# Altium schematic symbol library Mark_Library.SchLib: 467 symbols (part 2 of 4)
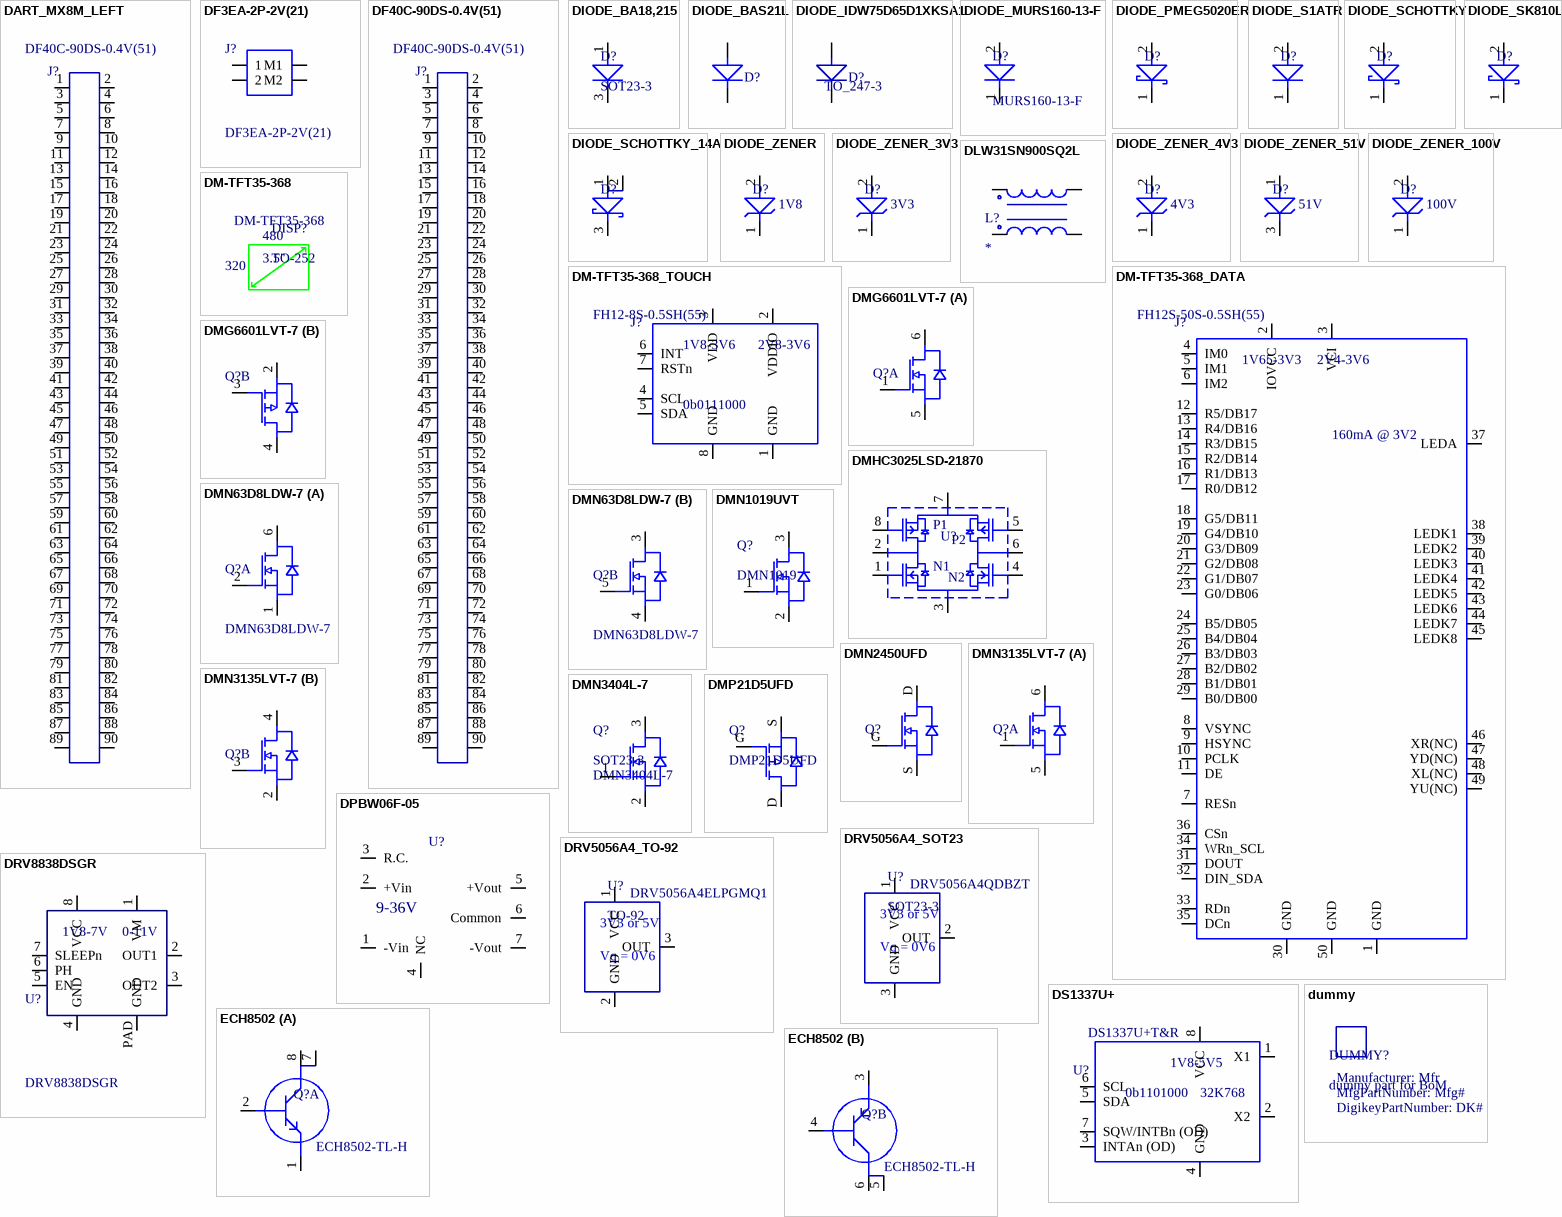
[diagram p20: symbols DART_MX8M_LEFT to ECH8502]

## DIODE_ZENER_3V3
designator D?, comment ZenerVoltage: 3V3  (hidden comment: Zener Diode)
Zener Diode 500mW ±5% Surface Mount SOD-123; Manufacturer: ON Semiconductor; MfgPartNumber: MMSZ4684T1G; DigikeyPartNumber: MMSZ4684T1GOSTR-ND
footprint SOD-123 (for Zener diodes)
pins: 1, 2

## DIODE_ZENER_4V3
designator D?, comment ZenerVoltage: 4V3  (hidden comment: Zener Diode)
Zener Diode 4.3V 500mW ±5% Surface Mount SOD-123; Manufacturer: ON Semiconductor; MfgPartNumber: MMSZ4V3T1G; DigikeyPartNumber: MMSZ4V3T1GOSCT-ND
footprint SOD-123 (for Zener diodes)
pins: 1, 2

## DIODE_ZENER_51V
designator D?, comment ZenerVoltage: 51V  (hidden comment: Zener Diode)
Zener Diode 51V 250mW ±1% Surface Mount TO-236AB; Manufacturer: Nexperia; MfgPartNumber: BZX84-A51,215; DigikeyPartNumber: 1727-5608-1-ND
footprint SOT23-3
pins: 1 A, 3 C

## DIODE_ZENER_100V
designator D?, comment ZenerVoltage: 100V  (hidden comment: Zener Diode)
Zener Diode 100V 310mW ±5% Surface Mount SOD-323F; Manufacturer: Nexperia; MfgPartNumber: BZX100A,115; DigikeyPartNumber: 1727-4984-1-ND
footprint SOD-323 (For CSU10S30,H3F schottky diode)
pins: 1 C, 2 A

## DLW31SN900SQ2L
designator L?
2 Line Common Mode Choke Surface Mount 90 Ohms @ 100MHz 370mA DCR 300mOhm; MfgPartNumber: DLW31SN900SQ2L; Manufacturer: Murata; DigikeyPartNumber: 490-1067-1-ND
footprint DUAL_CHOKE_1.6_3.2MM (for DLW31SN900SQ2L)
pins: 1, 2, 3, 4

## DM-TFT35-368
designator DISP?, comment TO-252  MfgPartNumber: DM-TFT35-368  (mechanical)
3.5" 320 x 480 touchscreen; Manufacturer: DisplayModule; DigikeyPartNumber: N/A  https://www.displaymodule.com/products/3-5-ips-320x480-display-panel-with-capacitive-touch-spi-mcu-rgb
text: 480; 3.5"; 320

## DM-TFT35-368_DATA
designator J?  MfgPartNumber: FH12S-50S-0.5SH(55)
3.5" 320 x 480 touchscreen; Manufacturer: Hirose; DigikeyPartNumber: HFA150CT-ND
footprint FH12S-50S-0.5SH(55) (50-pin FFC conn 0.5mm, bottom contacts)
pins: 1 GND, 2 IOVCC, 3 VCI, 4 IM0, 5 IM1, 6 IM2, 7 RESn, 8 VSYNC, 9 HSYNC, 10 PCLK, 11 DE, 12 R5/DB17, 13 R4/DB16, 14 R3/DB15, 15 R2/DB14, 16 R1/DB13, 17 R0/DB12, 18 G5/DB11, 19 G4/DB10, 20 G3/DB09, 21 G2/DB08, 22 G1/DB07, 23 G0/DB06, 24 B5/DB05, 25 B4/DB04, 26 B3/DB03, 27 B2/DB02, 28 B1/DB01, 29 B0/DB00, 30 GND, 31 DOUT, 32 DIN_SDA, 33 RDn, 34 WRn_SCL, 35 DCn, 36 CSn, 37 LEDA, 38 LEDK1, 39 LEDK2, 40 LEDK3, 41 LEDK4, 42 LEDK5, 43 LEDK6, 44 LEDK7, 45 LEDK8, 46 XR(NC), 47 YD(NC), 48 XL(NC), 49 YU(NC), 50 GND
text: 1V65-3V3; 2V4-3V6; 160mA @ 3V2

## DM-TFT35-368_TOUCH
designator J?  MfgPartNumber: FH12-8S-0.5SH(55)
3.5" 320 x 480 touchscreen; Manufacturer: Hirose; DigikeyPartNumber: H124618CT-ND
footprint FH12-8S-0.5SH(55) (8-pin FFC conn 0.5mm, bottom contacts)
pins: 1 GND, 2 VDDIO, 3 VDD, 4 SCL, 5 SDA, 6 INT, 7 RSTn, 8 GND
text: 1V8-3V6; 2V8-3V6; 0b0111000

## DMG6601LVT-7
designator Q?, comment dual FET SOT23-6  (value not drawn)
MOSFET N/P-CH 30V 26TSOT; MfgPartNumber: DMG6601LVT-7; Manufacturer: Diodes Incorporated; DigikeyPartNumber: DMG6601LVT-7DICT-ND
footprint SOT23-6
part A pins: 1 G, 5 S, 6 D
part B pins: 2 S, 3 G, 4 D

## DMHC3025LSD-21870
designator U?  (value not drawn)
H-Bridge / Rectifier; Manufacturer: Diodes Incorporated; MfgPartNumber: DMHC3025LSD
footprint SOIC-8
pins: 1 N1G, 2 N1D/P1D, 3 N1S/N2S, 4 N2G, 5 P2G, 6 N2D/P2D, 7 P1S/P2S, 8 P1G
text: P1; P2; N1; N2

## DMN63D8LDW-7
designator Q?  MfgPartNumber: DMN63D8LDW-7
Mosfet Array 2 N-Channel (Dual) 30V 220mA 300mW Surface Mount SOT-363; Manufacturer: Diodes Incorporated; DigikeyPartNumber: DMN63D8LDW-7CT-ND
footprint SOT363-6 (6 pin 2.2 x 2.2 mm)
part A pins: 1 S1, 2 G1, 6 D1
part B pins: 3 D2, 4 S2, 5 G2

## DMN1019UVT
designator Q?, comment DMN1019
MOSFET N-CH 12V 9.3A SC59; Manufacturer: Diodes Incorporated; MfgPartNumber: DMN1019USN-7; Ron: 13m-ohm at 1.8V; DigikeyPartNumber: DMN1019USN-7DICT-ND; Vds max: 12V
footprint SC59-3 (alternative to SOT23-3)
pins: 1, 2, 3

## DMN2450UFD
designator Q?  (value not drawn)
N-Channel 20V 900mA (Ta) 400mW (Ta) Surface Mount X1-DFN1212-3; MfgPartNumber: DMN2450UFD-7; Manufacturer: Diodes Incorporated; RDS_on: 600mOhm @ 4.5V; DigikeyPartNumber: DMN2450UFD-7DICT-ND
footprint DFN1212-3 (1.25 x 1.25mm SMD for PMOS DMP21D5UFD-7)
pins: D, G, S

## DMN3135LVT-7
designator Q?
Mosfet Array 2 N-Channel (Dual) 30V 3.5A 840mW Surface Mount TSOT-26; Manufacturer: Diodes Incorporated; DigikeyPartNumber: DMN3135LVT-7DICT-ND - Cut Tape (CT)
footprint SOT23-6
part A pins: 1 G1, 5 S1, 6 D1
part B pins: 2 S2, 3 G2, 4 D2

## DMN3404L-7
designator Q?  MfgPartNumber: DMN3404L-7
MOSFET N-CH 30V 5.8A SOT-23; Manufacturer: Diodes Incorporated; Ron: 82m-ohm at 3V; DigikeyPartNumber: DMN3404LDICT-ND; Vds max: 30V
footprint SOT23-3
pins: 1, 2, 3

## DMP21D5UFD
designator Q?
PMOS in 1.25 x 1.25mm SMD; MfgPartNumber: DMP21D5UFD-7; Manufacturer: Diodes Incorporated; DigikeyPartNumber: DMP21D5UFD-7DICT-ND
footprint DFN1212-3 (1.25 x 1.25mm SMD for PMOS DMP21D5UFD-7)
pins: D, G, S

## DPBW06F-05
designator U?  (value not drawn)
Isolated Module DC DC Converter 2 Output 5V -5V 600mA, 600mA 9V - 36V Input; MfgPartNumber: DPBW06F-05; Manufacturer: Mean Well USA; DigikeyPartNumber: 1866-1401-ND
pins: 1 -Vin, 2 +Vin, 3 R.C., 4 NC, 5 +Vout, 6 Common, 7 -Vout
text: 9-36V

## DRV5056A4_SOT23
designator U?, comment SOT23-3  MfgPartNumber: DRV5056A4QDBZT
Hall Effect Sensor 25mV/mT output; Manufacturer: Texas Instruments; DigikeyPartNumber: 296-49481-6-ND
footprint SOT23-3
pins: 1 VCC, 2 OUT, 3 GND
text: 3V3 or 5V; Vq = 0V6

## DRV5056A4_TO-92
designator U?, comment TO-92  MfgPartNumber: DRV5056A4ELPGMQ1
Hall Effect Sensor 25mV/mT output; Manufacturer: Texas Instruments; DigikeyPartNumber: 296-DRV5056A4ELPGMQ1CT-ND
footprint TO-92 (transistor through-hole)
pins: 1 VCC, 2 GND, 3 OUT
text: 3V3 or 5V; Vq = 0V6

## DRV8838DSGR
designator U?  MfgPartNumber: DRV8838DSGR
IC BRIDGE DRIVER PAR 8WSON; Manufacturer: Texas Instruments; DigikeyPartNumber: 296-40081-1-ND
footprint WSON-8_PAD (2x2x0.8mm 8pins SMD + center pad)
pins: 1 VM, 2 OUT1, 3 OUT2, 4 GND, 5 EN, 6 PH, 7 SLEEPn, 8 VCC, PAD GND
text: 1V8-7V; 0-11V

## DS1337U+
designator U?  MfgPartNumber: DS1337U+T&R  (hidden comment: *)
IC RTC CLK/CALENDAR I2C 8-USOP; Manufacturer: Maxim; DigikeyPartNumber: DS1337U+T&RCT-ND
footprint MSOP-8 (3x3mm + leads, 8 pins SMD)
pins: 1 X1, 2 X2, 3 INTAn (OD), 4 GND, 5 SDA, 6 SCL, 7 SQW/INTBn (OD), 8 VCC
text: 1V8-5V5; 0b1101000; 32K768

## dummy
designator DUMMY?, comment dummy part for BoM  DigikeyPartNumber: DK#  Manufacturer: Mfr  MfgPartNumber: Mfg#

## ECH8502
designator Q?  MfgPartNumber: ECH8502-TL-H
Bipolar (BJT) Transistor Array NPN, PNP 100V, 50V 5A 290MHz 1.6W Surface Mount 8-ECH; Manufacturer: ON Semiconductor; DigikeyPartNumber: ECH8502-TL-HOSCT-ND
footprint ECH-8 (for ECH8502 NPN/PNP)
part A pins: 1 E, 2 B, 7 C, 8 C
part B pins: 3 E, 4 B, 5 C, 6 C

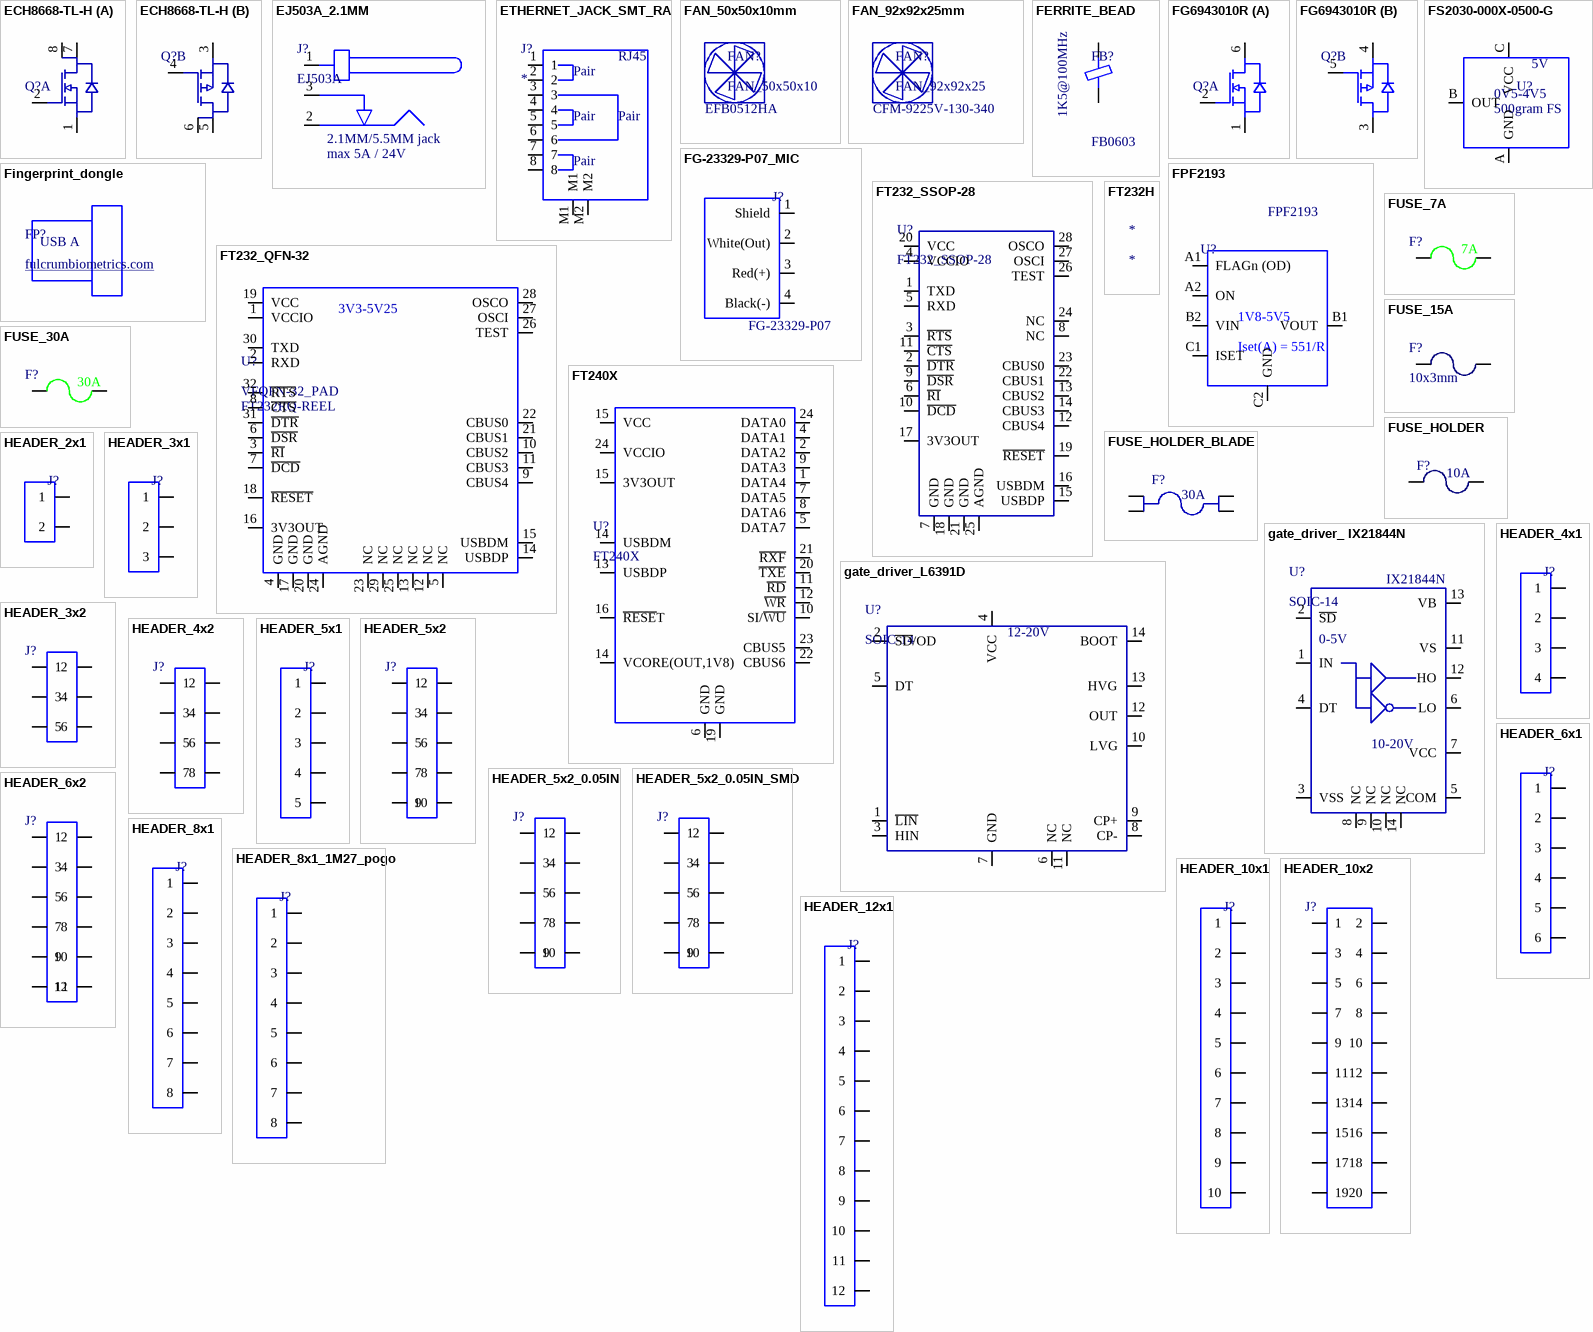
[diagram p8: symbols ECH8668-TL-H to HEADER_12x1]

## ECH8668-TL-H
designator Q?, comment ECH-8  (value not drawn)
MOSFET N/P-CH 20V 7.5A/5A ECH8; MfgPartNumber: ECH8668-TL-H; Manufacturer: ON Semiconductor; DigikeyPartNumber: ECH8668-TL-HOSCT-ND
footprint ECH-8 (for ECH8502 NPN/PNP)
part A pins: 1 S, 2 G, 7 D, 8 D
part B pins: 3 S, 4 G, 5 D, 6 D

## EJ503A_2.1MM
designator J?, comment EJ503A
CONN PWR JACK 2.1X5.5MM SOLDER; Manufacturer: MPD; MfgPartNumber: EJ503A; DigikeyPartNumber: EJ503A-ND
footprint PJ-002AH (For use with EJ503-A DC power jack)
pins: 1, 2, 3
text: 2.1MM/5.5MM jack; max 5A / 24V

## ETHERNET_JACK_SMT_RA
designator J?
Jack Modular Connector 8p8c (RJ45, Ethernet) 90° Angle (Right) Unshielded; Manufacturer: Amphenol; MfgPartNumber: RJLSE4208101T; DigikeyPartNumber: RJLSE4208101TCT-ND
footprint RJLSE4208101T
pins: 1, 2, 3, 4, 5, 6, 7, 8, M1, M2
text: RJ45; Pair

## FAN_50x50x10mm
designator FAN?  MfgPartNumber: EFB0512HA
Manufacturer: Delta Electronics; DigikeyPartNumber: 603-1023-ND
footprint FAN_50x50x10 (12V fan 50x50x10mm)

## FAN_92x92x25mm
designator FAN?  MfgPartNumber: CFM-9225V-130-340
Manufacturer: CUI Inc.; DigikeyPartNumber: 102-4386-ND
footprint FAN_92x92x25 (12V fan 92x92x25mm)

## FERRITE_BEAD
designator FB?, comment value 1K5@100MHz  (hidden comment: Ferrite Bead)
Ferrite Bead for high frequency power line filtering; Manufacturer: Lookup; MfgPartNumber: Lookup; DigikeyPartNumber: Lookup
footprint FB0402 (Ferrite Bead 1.0 x 0.5mm (0402), For TDK MMZ1005 series)
footprint FB0603 (Ferrite Bead 1.6 x 0.8mm (0603), For TDK MMZ1608 series)
pins: 1, 2

## FG6943010R
designator Q?, comment dual fet SSMini6  (value not drawn)
MOSFET N/P-CH 30V 0.1A SSMINI6; MfgPartNumber: FG6943010R; Manufacturer: Panasonic Electronic Components; DigikeyPartNumber: FG6943010RCT-ND
footprint SSMini6-F3-B (1.6 x 1.2mm SMD for NMOS + PMOS array)
part A pins: 1 S, 2 G, 6 D
part B pins: 3 D, 4 S, 5 G

## FG-23329-P07_MIC
designator J?, comment MfgPartNumber: FG-23329-P07  (hidden comment: Mic header)
MIC COND ANALOG OMNI -53DB; Manufacturer: Knowles; DigikeyPartNumber: 423-1159-ND
footprint FG-23329-P07 (Knowles Mic 4 wires)
pins: 1 Shield, 2 White(Out), 3 Red(+), 4 Black(-)

## Fingerprint_dongle
designator FP?, comment fulcrumbiometrics.com  (no BOM)
footprint FP_dongle_dummy (3d model for fingerprint license dongle)
text: USB A

## FPF2193
designator U?, comment MfgPartNumber: FPF2193  (hidden comment: TPS2113A)
IC OR CTRLR SRC SELECT 8TSSOP; Manufacturer: ON Semiconductor; DigikeyPartNumber: FPF2193CT-ND
footprint WLCSP_6_1x1mm5 (1 x 1.5 x 0.6mm)
pins: A1 FLAGn (OD), A2 ON, B1 VOUT, B2 VIN, C1 ISET, C2 GND
text: 1V8-5V5; Iset(A) = 551/R

## FS2030-000X-0500-G
designator U?  (value not drawn)
SENSOR FORCE LOAD CELL; MfgPartNumber: FS2030-000X-0500-G; Manufacturer: TE Connectivity; DigikeyPartNumber: FS2030-000X-0500-G
footprint LOAD_CELL_VERT (for  FS2030-000X-0500-G)
pins: A GND, B OUT, C VCC
text: 5V; 0V5-4V5; 500gram FS

## FT232_QFN-32
designator U?  MfgPartNumber: FT232RQ-REEL
USB Bridge, USB to UART USB 2.0 UART Interface 32-QFN (5x5); Manufacturer: FTDI; DigikeyPartNumber: 768-1008-1-ND
footprint VFQFN-32_PAD (5x5x0.9mm SMD)
pins: 1 VCCIO, 2 RXD, 3 ~{RI}, 4 GND, 5 NC, 6 ~{DSR}, 7 ~{DCD}, 8 ~{CTS}, 9 CBUS4, 10 CBUS2, 11 CBUS3, 12 NC, 13 NC, 14 USBDP, 15 USBDM, 16 3V3OUT, 17 GND, 18 ~{RESET}, 19 VCC, 20 GND, 21 CBUS1, 22 CBUS0, 23 NC, 24 AGND, 25 NC, 26 TEST, 27 OSCI, 28 OSCO, 29 NC, 30 TXD, 31 ~{DTR}, 32 ~{RTS}
text: 3V3-5V25

## FT232_SSOP-28
designator U?
USB Bridge, USB to UART USB 2.0 UART Interface 28-SSOP; MfgPartNumber: FT232RL-REEL; Manufacturer: FTDI; DigikeyPartNumber: 768-1007-1-ND
footprint SSOP-28 (8x10x1.75mm SMD)
pins: 1 TXD, 2 ~{DTR}, 3 ~{RTS}, 4 VCCIO, 5 RXD, 6 ~{RI}, 7 GND, 8 NC, 9 ~{DSR}, 10 ~{DCD}, 11 ~{CTS}, 12 CBUS4, 13 CBUS2, 14 CBUS3, 15 USBDP, 16 USBDM, 17 3V3OUT, 18 GND, 19 ~{RESET}, 20 VCC, 21 GND, 22 CBUS1, 23 CBUS0, 24 NC, 25 AGND, 26 TEST, 27 OSCI, 28 OSCO

## FT232H
designator *

## FT240X
designator U?
IC USB FS PARALLEL FIFO 24SSOP; MfgPartNumber: FT240XS-R; Manufacturer: FTDI; DigikeyPartNumber: 768-1127-1-ND
footprint SSOP-24 (SMD 24-pin SSOP 0.34 x 0.236 inch)
pins: 1 DATA4, 2 DATA2, 4 DATA1, 5 DATA7, 6 GND, 7 DATA5, 8 DATA6, 9 DATA3, 10 SI/~{WU}, 11 ~{RD}, 12 ~{WR}, 13 USBDP, 14 USBDM, 14 VCORE(OUT,1V8), 15 3V3OUT, 15 VCC, 16 ~{RESE}T, 19 GND, 20 ~{TXE}, 21 ~{RXF}, 22 CBUS6, 23 CBUS5, 24 DATA0, 24 VCCIO

## FUSE_7A
designator F?  CurrentRating: 7A  (hidden comment: *)  (mechanical)
FUSE GLASS 7A 125VAC 5X20MM; MfgPartNumber: 5MF 7-R; Manufacturer: Bel Fuse Inc.; DigikeyPartNumber: 507-1271-ND
pins: 1, 2

## FUSE_15A
designator F?, comment 10x3mm
FUSE BOARD MNT 15A 250VAC 72VDC; Manufacturer: Bel Fuse Inc.; MfgPartNumber: 0678L9150-02; DigikeyPartNumber: 507-2062-1-ND; CurrentRating: 15A
footprint FUSE_SMT_3x10 (10x3x3mm fuse)
pins: 1, 2

## FUSE_30A
designator F?, comment CurrentRating: 30A  (hidden comment: Blade fuse)  (mechanical)
FUSE AUTO 30A 32VDC BLADE MINI; MfgPartNumber: BK/ATM-30; Manufacturer: Eaton - Bussmann Electrical Division; DigikeyPartNumber: 283-2332-ND
pins: 1, 2

## FUSE_HOLDER
designator F?, comment CurrentRating: 10A  (hidden comment: Block fuse holder, 5x20mm)
MfgPartNumber: 0031.8221; Manufacturer: Schurter; DigikeyPartNumber: 486-1260-ND
footprint FUSE_BLOCK_10A (For Schurter fuse block, 10A)
pins: 1, 2

## FUSE_HOLDER_BLADE
designator F?, comment CurrentRating: 30A  (hidden comment: FUSE HOLDER BLADE 500V 30A PCB)
MfgPartNumber: 3568; Manufacturer: Keystone Electronics; DigikeyPartNumber: 36-3568-ND
footprint FUSE_BLOCK_30A (For Keystone fuse block 3568, 30A)
pins: 1, 2, 3, 4

## gate_driver_ IX21844N
designator U?  MfgPartNumber: IX21844N
IC GATE DVR HALF 600V 14SOIC; Manufacturer: IXYS; DigikeyPartNumber: CLA409-ND
footprint SOIC-14
pins: 1 IN, 2 ~{SD}, 3 VSS, 4 DT, 5 COM, 6 LO, 7 VCC, 8 NC, 9 NC, 10 NC, 11 VS, 12 HO, 13 VB, 14 NC
text: 0-5V; 10-20V

## gate_driver_L6391D
designator U?
IC DRIVER HV HI/LOW SIDE 14SO; Manufacturer: STMicroelectronics; MfgPartNumber: L6391D; DigikeyPartNumber: 497-15782-ND
footprint SOIC-14
pins: 1 ~{LIN}, 2 ~{SD}/OD, 3 HIN, 4 VCC, 5 DT, 6 NC, 7 GND, 8 CP-, 9 CP+, 10 LVG, 11 NC, 12 OUT, 13 HVG, 14 BOOT
text: 12-20V

## HEADER_2x1
designator J?, comment 0.1in 2x1  (value not drawn)
0.1in header 2x1; Gender: Male
footprint HEADER_2x1 (2x1 0IN1 2MM54 spacing)
pins: 1, 2

## HEADER_3x1
designator J?, comment 0.1in 3x1  (value not drawn)
0.1in header 3x1; Gender: Male
footprint HEADER_3x1 (tenth-inch header as a testpoint)
pins: 1, 2, 3

## HEADER_3x2
designator J?, comment 0.1in 4x2  (value not drawn)
0.1in header 4x2; Gender: Male
footprint HEADER_3x2 (3x2 0IN1 2MM54 spacing)
pins: 1, 2, 3, 4, 5, 6

## HEADER_4x1
designator J?, comment 0.1in 4x1  (value not drawn)
0.1in header 4x1; Gender: Male
footprint HEADER_4x1 (4x1 0IN1 2MM54 spacing)
pins: 1, 2, 3, 4

## HEADER_4x2
designator J?, comment 0.1in 4x2  (value not drawn)
0.1in header 4x2; Gender: Male
footprint HEADER_4x2 (4x2 0IN1 2MM54 spacing)
pins: 1, 2, 3, 4, 5, 6, 7, 8

## HEADER_5x1
designator J?, comment 0.1in 5x1  (value not drawn)
0.1in header 5x1; Gender: Male
footprint HEADER_5x1 (5x1 0IN1 2MM54 spacing)
pins: 1, 2, 3, 4, 5

## HEADER_5x2
designator J?, comment 0.1in 5x2  (value not drawn)
0.1in header 5x2; Gender: Male
footprint HEADER_5x2 (5x2 0IN1 2MM54 spacing)
pins: 1, 2, 3, 4, 5, 6, 7, 8, 9, 10

## HEADER_5x2_0.05IN
designator J?, comment 0.05in 5x2  (value not drawn)
0.05in header 5x2; MfgPartNumber: 1175-1627-ND; Manufacturer: CNC Tech; Gender: Male; DigikeyPartNumber: 1175-1627-ND
footprint HEADER_2x5_0.05IN (0.05 (1.27mm) 2x5 header for programming nRF52832)
pins: 1, 2, 3, 4, 5, 6, 7, 8, 9, 10

## HEADER_5x2_0.05IN_SMD
designator J?, comment 0.05in 5x2  (value not drawn)
0.05in header 5x2, SMD, male; MfgPartNumber: 20021121-00010C4LF; Manufacturer: Amphenol; Gender: Male; DigikeyPartNumber: 609-3695-1-ND
footprint HEADER_2x5_0.05IN_SMT (0.05 (1.27mm) 2x5 header for JTAG)
pins: 1, 2, 3, 4, 5, 6, 7, 8, 9, 10

## HEADER_6x1
designator J?, comment 0.1in 6x1  (value not drawn)
0.1in header 6x1; Gender: Male
footprint HEADER_6x1 (6x1 0IN1 2MM54 spacing)
pins: 1, 2, 3, 4, 5, 6

## HEADER_6x2
designator J?, comment 0.1in 6x2  (value not drawn)
0.1in header 6x2; Manufacturer: Lookup; Gender: Male; MfgPartNumber: Lookup; DigikeyPartNumber: Lookup
footprint HEADER_6x2 (6x2 0IN1 2MM54 spacing)
pins: 1, 2, 3, 4, 5, 6, 7, 8, 9, 10, 11, 12

## HEADER_8x1
designator J?, comment 0.1in 8x1  (value not drawn)
0.1in header 8x1; Gender: Male
footprint HEADER_8x1 (8x1 0IN1 2MM54 spacing)
pins: 1, 2, 3, 4, 5, 6, 7, 8

## HEADER_8x1_1M27_pogo
designator J?, comment 0.05in 8x1  (value not drawn)
0.05in header 8x1; Gender: Male
footprint HEADER_8x1x1MM27 (header 8 pins 1 row 1.27mm spacing)
pins: 1, 2, 3, 4, 5, 6, 7, 8

## HEADER_10x1
designator J?, comment 0.1in 10x1  (value not drawn)
0.1in header 10x1; Gender: Male
footprint HEADER_10x1 (Footprint not found)
pins: 1, 2, 3, 4, 5, 6, 7, 8, 9, 10

## HEADER_10x2
designator J?, comment 0.1in 10x2  (value not drawn)
0.1in header 10x2; Gender: Male
footprint HEADER_10x2 (10x2 0IN1 2MM54 spacing)
pins: 1, 2, 3, 4, 5, 6, 7, 8, 9, 10, 11, 12, 13, 14, 15, 16, 17, 18, 19, 20

## HEADER_12x1
designator J?, comment 0.1in 12x1  (value not drawn)
0.1in header 12x1; Gender: Male
footprint HEADER_12x1 (12x1 0IN1 2MM54 spacing)
pins: 1, 2, 3, 4, 5, 6, 7, 8, 9, 10, 11, 12

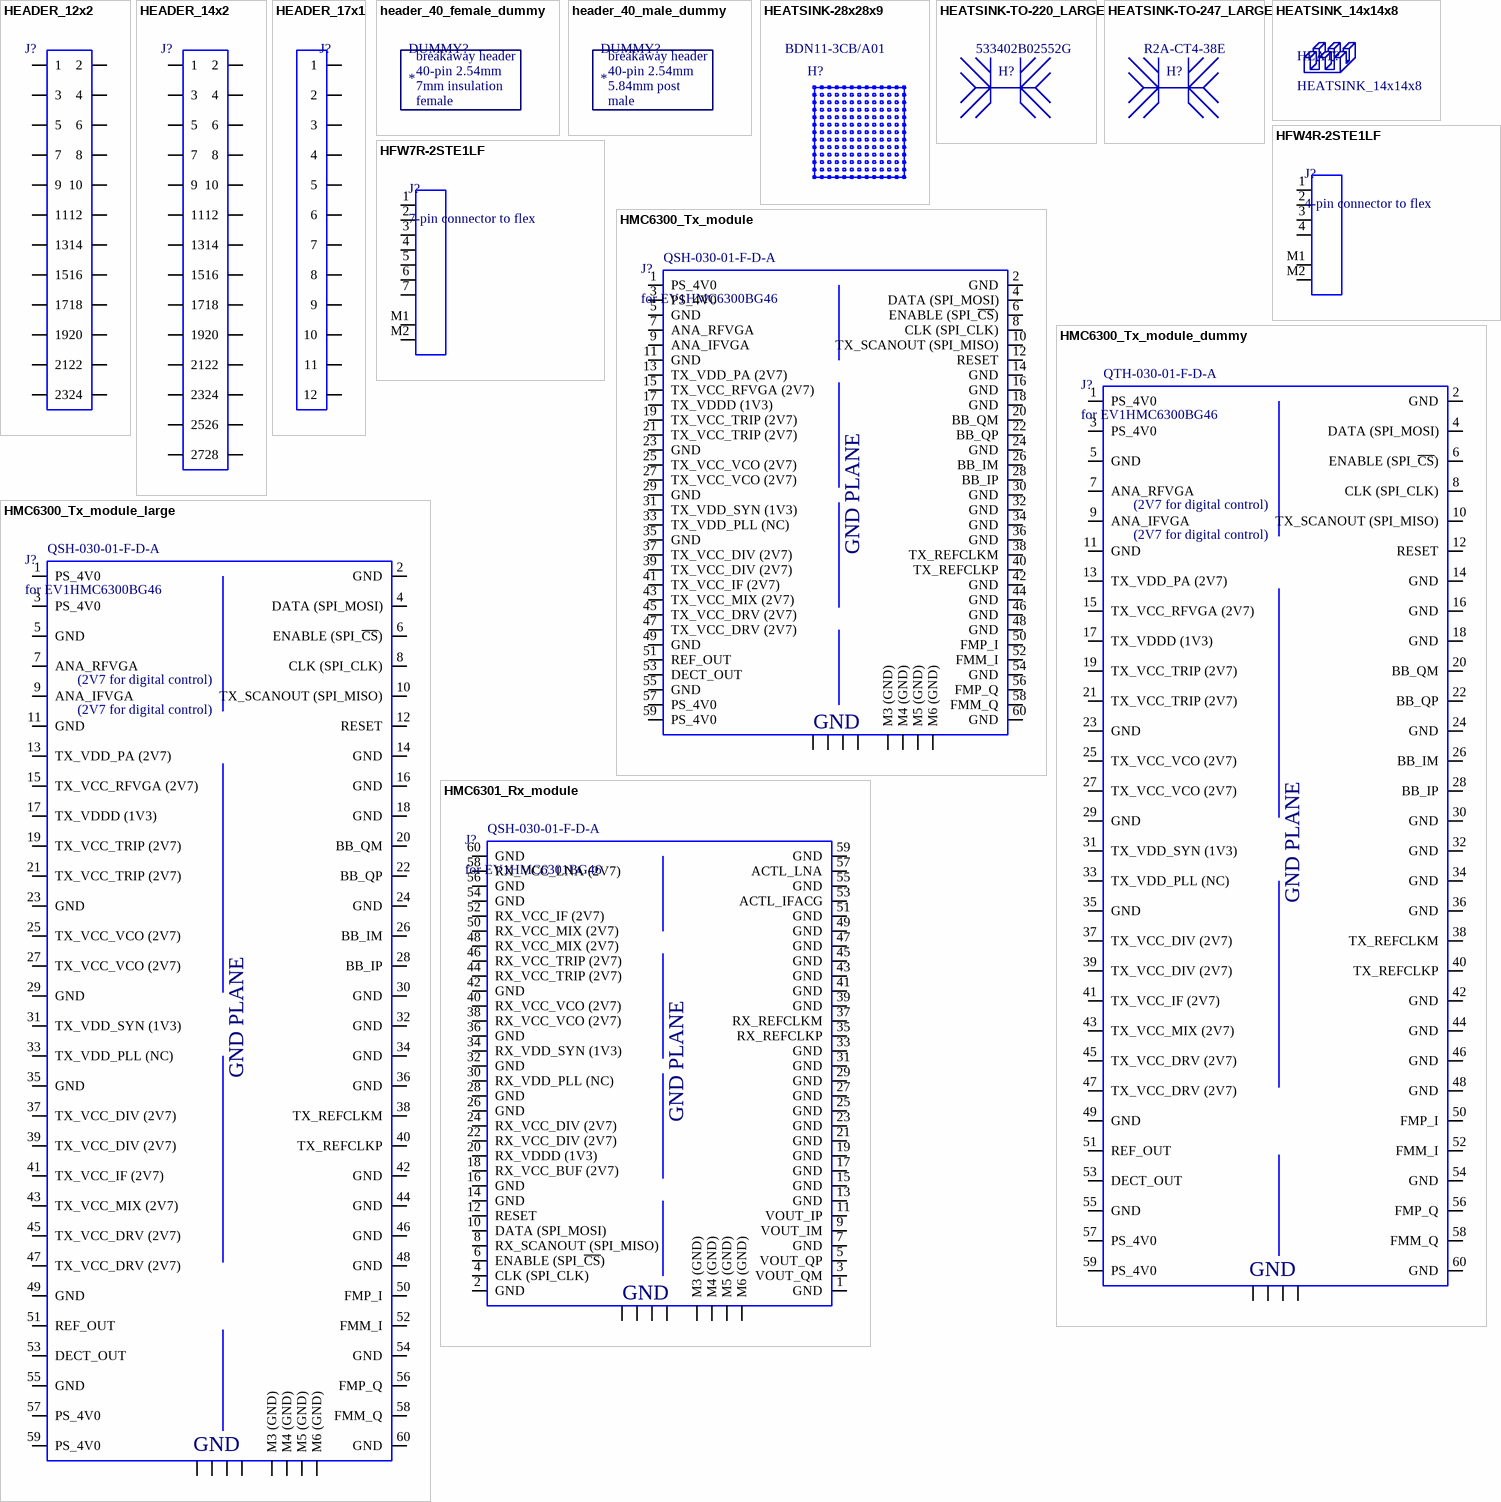
[diagram p9: symbols HEADER_12x2 to HMC6301_Rx_module]

## HEADER_12x2
designator J?, comment 0.1in 12x2  (value not drawn)
0.1in header 12x2; Gender: Male
footprint HEADER_12x2 (12x2 0IN1 2MM54 spacing)
pins: 1, 2, 3, 4, 5, 6, 7, 8, 9, 10, 11, 12, 13, 14, 15, 16, 17, 18, 19, 20, 21, 22, 23, 24

## HEADER_14x2
designator J?, comment 0.1in 14x2  (value not drawn)
0.1in header 14x2; Gender: Male
footprint HEADER_14x2 (Footprint not found)
pins: 1, 2, 3, 4, 5, 6, 7, 8, 9, 10, 11, 12, 13, 14, 15, 16, 17, 18, 19, 20, 21, 22, 23, 24, 25, 26, 27, 28

## HEADER_17x1
designator J?, comment 0.1in 17x1  (value not drawn)
0.1in header 17x1; Gender: Male
footprint HEADER_17x1 (Footprint not found)
pins: 1, 2, 3, 4, 5, 6, 7, 8, 9, 10, 11, 12

## header_40_female_dummy
designator DUMMY?  (mechanical)
row of 40 pins breakaway female 2.54mm; Manufacturer: Preci-Dip; MfgPartNumber: 801-87-040-10-001101; DigikeyPartNumber: 801-87-040-10-001101
text: breakaway header; 40-pin 2.54mm; 7mm insulation; female

## header_40_male_dummy
designator DUMMY?  (mechanical)
row of 40 pins breakaway male 2.54mm; Manufacturer: Sullins; MfgPartNumber: PRPC040SAAN-RC; DigikeyPartNumber: S1011EC-40-ND
text: breakaway header; 40-pin 2.54mm; 5.84mm post; male

## HEATSINK-28x28x9
designator H?  MfgPartNumber: BDN11-3CB/A01  (hidden comment: *)
HEATSINK CPU W/ADHESIVE 1.11"SQ; Manufacturer: CTS Thermal Management Products; DigikeyPartNumber: 294-1109-ND
footprint HEATSINK_28x28x9 (for SMD / CPU)

## HEATSINK-TO-220_LARGE
designator H?  MfgPartNumber: 533402B02552G  (hidden comment: *)
Heat Sink TO-220 Aluminum 8.0W @ 40°C Board Level, Vertical; Manufacturer: Aavid; DigikeyPartNumber: 533402B02552G-ND
footprint HEATSINK_533402B02552G (Heat Sink TO-220 Aluminum 8.0W @ 40°C Board Level, Vertical)

## HEATSINK-TO-247_LARGE
designator H?  MfgPartNumber: R2A-CT4-38E
Heat Sink TO-247 Aluminum 2.0W @ 20°C Board Level; Manufacturer: Ohmite; DigikeyPartNumber: R2A-CT4-38E-ND
footprint HEATSINK_TO-247-3 (Heat Sink TO-247 Aluminum 2.0W @ 20°C Board Level)

## HEATSINK_14x14x8
designator HEAT?
ALUM HEAT SINK 14x14x8mm; Manufacturer: Adafruit; MfgPartNumber: 3083; DigikeyPartNumber: 1528-1697-ND
footprint HEATSINK_14x14x8

## HFW4R-2STE1LF
designator J?, comment 4-pin connector to flex
CONN FFC TOP 4POS 1MM R/A; Manufacturer: FCI; MfgPartNumber: HFW4R-2STE1LF; DigikeyPartNumber: 609-1783-1-ND
footprint HFW4R-2STE1LF (FFC 4 pin top contact 1mm pitch)
pins: 1, 2, 3, 4, M1, M2

## HFW7R-2STE1LF
designator J?, comment 7-pin connector to flex
CONN FFC TOP 7POS 1MM R/A; Manufacturer: FCI; MfgPartNumber: HFW7R-2STE1LF; DigikeyPartNumber: 609-6478-1-ND
footprint HFW7R-2STE1LF (FFC 7 pin top contact 1mm pitch)
pins: 1, 2, 3, 4, 5, 6, 7, M1, M2

## HMC6300_Tx_module
designator J?, comment for EV1HMC6300BG46  MfgPartNumber: QSH-030-01-F-D-A
60-pin connector + 4 mounting holes; Manufacturer: Samtec; DigikeyPartNumber: SAM10650-ND
footprint HMC6300_TX_MODULE (connector + mounting holes for HMC6300 demo module)
pins: 1 PS_4V0, 2 GND, 3 PS_4V0, 4 DATA (SPI_MOSI), 5 GND, 6 ENABLE (SPI_~{CS}), 7 ANA_RFVGA, 8 CLK (SPI_CLK), 9 ANA_IFVGA, 10 TX_SCANOUT (SPI_MISO), 11 GND, 12 RESET, 13 TX_VDD_PA (2V7), 14 GND, 15 TX_VCC_RFVGA (2V7), 16 GND, 17 TX_VDDD (1V3), 18 GND, 19 TX_VCC_TRIP (2V7), 20 BB_QM, 21 TX_VCC_TRIP (2V7), 22 BB_QP, 23 GND, 24 GND, 25 TX_VCC_VCO (2V7), 26 BB_IM, 27 TX_VCC_VCO (2V7), 28 BB_IP, 29 GND, 30 GND, 31 TX_VDD_SYN (1V3), 32 GND, 33 TX_VDD_PLL (NC), 34 GND, 35 GND, 36 GND, 37 TX_VCC_DIV (2V7), 38 TX_REFCLKM, 39 TX_VCC_DIV (2V7), 40 TX_REFCLKP, 41 TX_VCC_IF (2V7), 42 GND, 43 TX_VCC_MIX (2V7), 44 GND, 45 TX_VCC_DRV (2V7), 46 GND, 47 TX_VCC_DRV (2V7), 48 GND, 49 GND, 50 FMP_I, 51 REF_OUT, 52 FMM_I, 53 DECT_OUT, 54 GND, 55 GND, 56 FMP_Q, 57 PS_4V0, 58 FMM_Q, 59 PS_4V0, 60 GND, G1, G2, G3, G4, M3 M3 (GND), M4 M4 (GND), M5 M5 (GND), M6 M6 (GND)
text: GND PLANE

## HMC6300_Tx_module_dummy
designator J?, comment for EV1HMC6300BG46  MfgPartNumber: QTH-030-01-F-D-A
60-pin connector + 4 mounting holes; Manufacturer: Samtec; DigikeyPartNumber: SAM8960-ND
footprint QTH-030-01-F-D-A (CONN HEADER 60POS 0.5MM SMT)
pins: 1 PS_4V0, 2 GND, 3 PS_4V0, 4 DATA (SPI_MOSI), 5 GND, 6 ENABLE (SPI_~{CS}), 7 ANA_RFVGA, 8 CLK (SPI_CLK), 9 ANA_IFVGA, 10 TX_SCANOUT (SPI_MISO), 11 GND, 12 RESET, 13 TX_VDD_PA (2V7), 14 GND, 15 TX_VCC_RFVGA (2V7), 16 GND, 17 TX_VDDD (1V3), 18 GND, 19 TX_VCC_TRIP (2V7), 20 BB_QM, 21 TX_VCC_TRIP (2V7), 22 BB_QP, 23 GND, 24 GND, 25 TX_VCC_VCO (2V7), 26 BB_IM, 27 TX_VCC_VCO (2V7), 28 BB_IP, 29 GND, 30 GND, 31 TX_VDD_SYN (1V3), 32 GND, 33 TX_VDD_PLL (NC), 34 GND, 35 GND, 36 GND, 37 TX_VCC_DIV (2V7), 38 TX_REFCLKM, 39 TX_VCC_DIV (2V7), 40 TX_REFCLKP, 41 TX_VCC_IF (2V7), 42 GND, 43 TX_VCC_MIX (2V7), 44 GND, 45 TX_VCC_DRV (2V7), 46 GND, 47 TX_VCC_DRV (2V7), 48 GND, 49 GND, 50 FMP_I, 51 REF_OUT, 52 FMM_I, 53 DECT_OUT, 54 GND, 55 GND, 56 FMP_Q, 57 PS_4V0, 58 FMM_Q, 59 PS_4V0, 60 GND, G1, G2, G3, G4
text: (2V7 for digital control); GND PLANE

## HMC6300_Tx_module_large
designator J?, comment for EV1HMC6300BG46  MfgPartNumber: QSH-030-01-F-D-A
60-pin connector + 4 mounting holes; Manufacturer: Samtec; DigikeyPartNumber: SAM10650-ND
footprint HMC6300_TX_MODULE (connector + mounting holes for HMC6300 demo module)
pins: 1 PS_4V0, 2 GND, 3 PS_4V0, 4 DATA (SPI_MOSI), 5 GND, 6 ENABLE (SPI_~{CS}), 7 ANA_RFVGA, 8 CLK (SPI_CLK), 9 ANA_IFVGA, 10 TX_SCANOUT (SPI_MISO), 11 GND, 12 RESET, 13 TX_VDD_PA (2V7), 14 GND, 15 TX_VCC_RFVGA (2V7), 16 GND, 17 TX_VDDD (1V3), 18 GND, 19 TX_VCC_TRIP (2V7), 20 BB_QM, 21 TX_VCC_TRIP (2V7), 22 BB_QP, 23 GND, 24 GND, 25 TX_VCC_VCO (2V7), 26 BB_IM, 27 TX_VCC_VCO (2V7), 28 BB_IP, 29 GND, 30 GND, 31 TX_VDD_SYN (1V3), 32 GND, 33 TX_VDD_PLL (NC), 34 GND, 35 GND, 36 GND, 37 TX_VCC_DIV (2V7), 38 TX_REFCLKM, 39 TX_VCC_DIV (2V7), 40 TX_REFCLKP, 41 TX_VCC_IF (2V7), 42 GND, 43 TX_VCC_MIX (2V7), 44 GND, 45 TX_VCC_DRV (2V7), 46 GND, 47 TX_VCC_DRV (2V7), 48 GND, 49 GND, 50 FMP_I, 51 REF_OUT, 52 FMM_I, 53 DECT_OUT, 54 GND, 55 GND, 56 FMP_Q, 57 PS_4V0, 58 FMM_Q, 59 PS_4V0, 60 GND, G1, G2, G3, G4, M3 M3 (GND), M4 M4 (GND), M5 M5 (GND), M6 M6 (GND)
text: (2V7 for digital control); GND PLANE

## HMC6301_Rx_module
designator J?, comment for EV1HMC6301BG46  MfgPartNumber: QSH-030-01-F-D-A
60-pin connector + 4 mounting holes; Manufacturer: Samtec; DigikeyPartNumber: SAM10650-ND
footprint HMC6301_RX_MODULE (connector + mounting holes for HMC6301 demo module)
pins: 1 GND, 2 GND, 3 VOUT_QM, 4 CLK (SPI_CLK), 5 VOUT_QP, 6 ENABLE (SPI_~{CS}), 7 GND, 8 RX_SCANOUT (SPI_MISO), 9 VOUT_IM, 10 DATA (SPI_MOSI), 11 VOUT_IP, 12 RESET, 13 GND, 14 GND, 15 GND, 16 GND, 17 GND, 18 RX_VCC_BUF (2V7), 19 GND, 20 RX_VDDD (1V3), 21 GND, 22 RX_VCC_DIV (2V7), 23 GND, 24 RX_VCC_DIV (2V7), 25 GND, 26 GND, 27 GND, 28 GND, 29 GND, 30 RX_VDD_PLL (NC), 31 GND, 32 GND, 33 GND, 34 RX_VDD_SYN (1V3), 35 RX_REFCLKP, 36 GND, 37 RX_REFCLKM, 38 RX_VCC_VCO (2V7), 39 GND, 40 RX_VCC_VCO (2V7), 41 GND, 42 GND, 43 GND, 44 RX_VCC_TRIP (2V7), 45 GND, 46 RX_VCC_TRIP (2V7), 47 GND, 48 RX_VCC_MIX (2V7), 49 GND, 50 RX_VCC_MIX (2V7), 51 GND, 52 RX_VCC_IF (2V7), 53 ACTL_IFACG, 54 GND, 55 GND, 56 GND, 57 ACTL_LNA, 58 RX_VCC_LNA (2V7), 59 GND, 60 GND, G1, G2, G3, G4, M3 M3 (GND), M4 M4 (GND), M5 M5 (GND), M6 M6 (GND)
text: GND PLANE

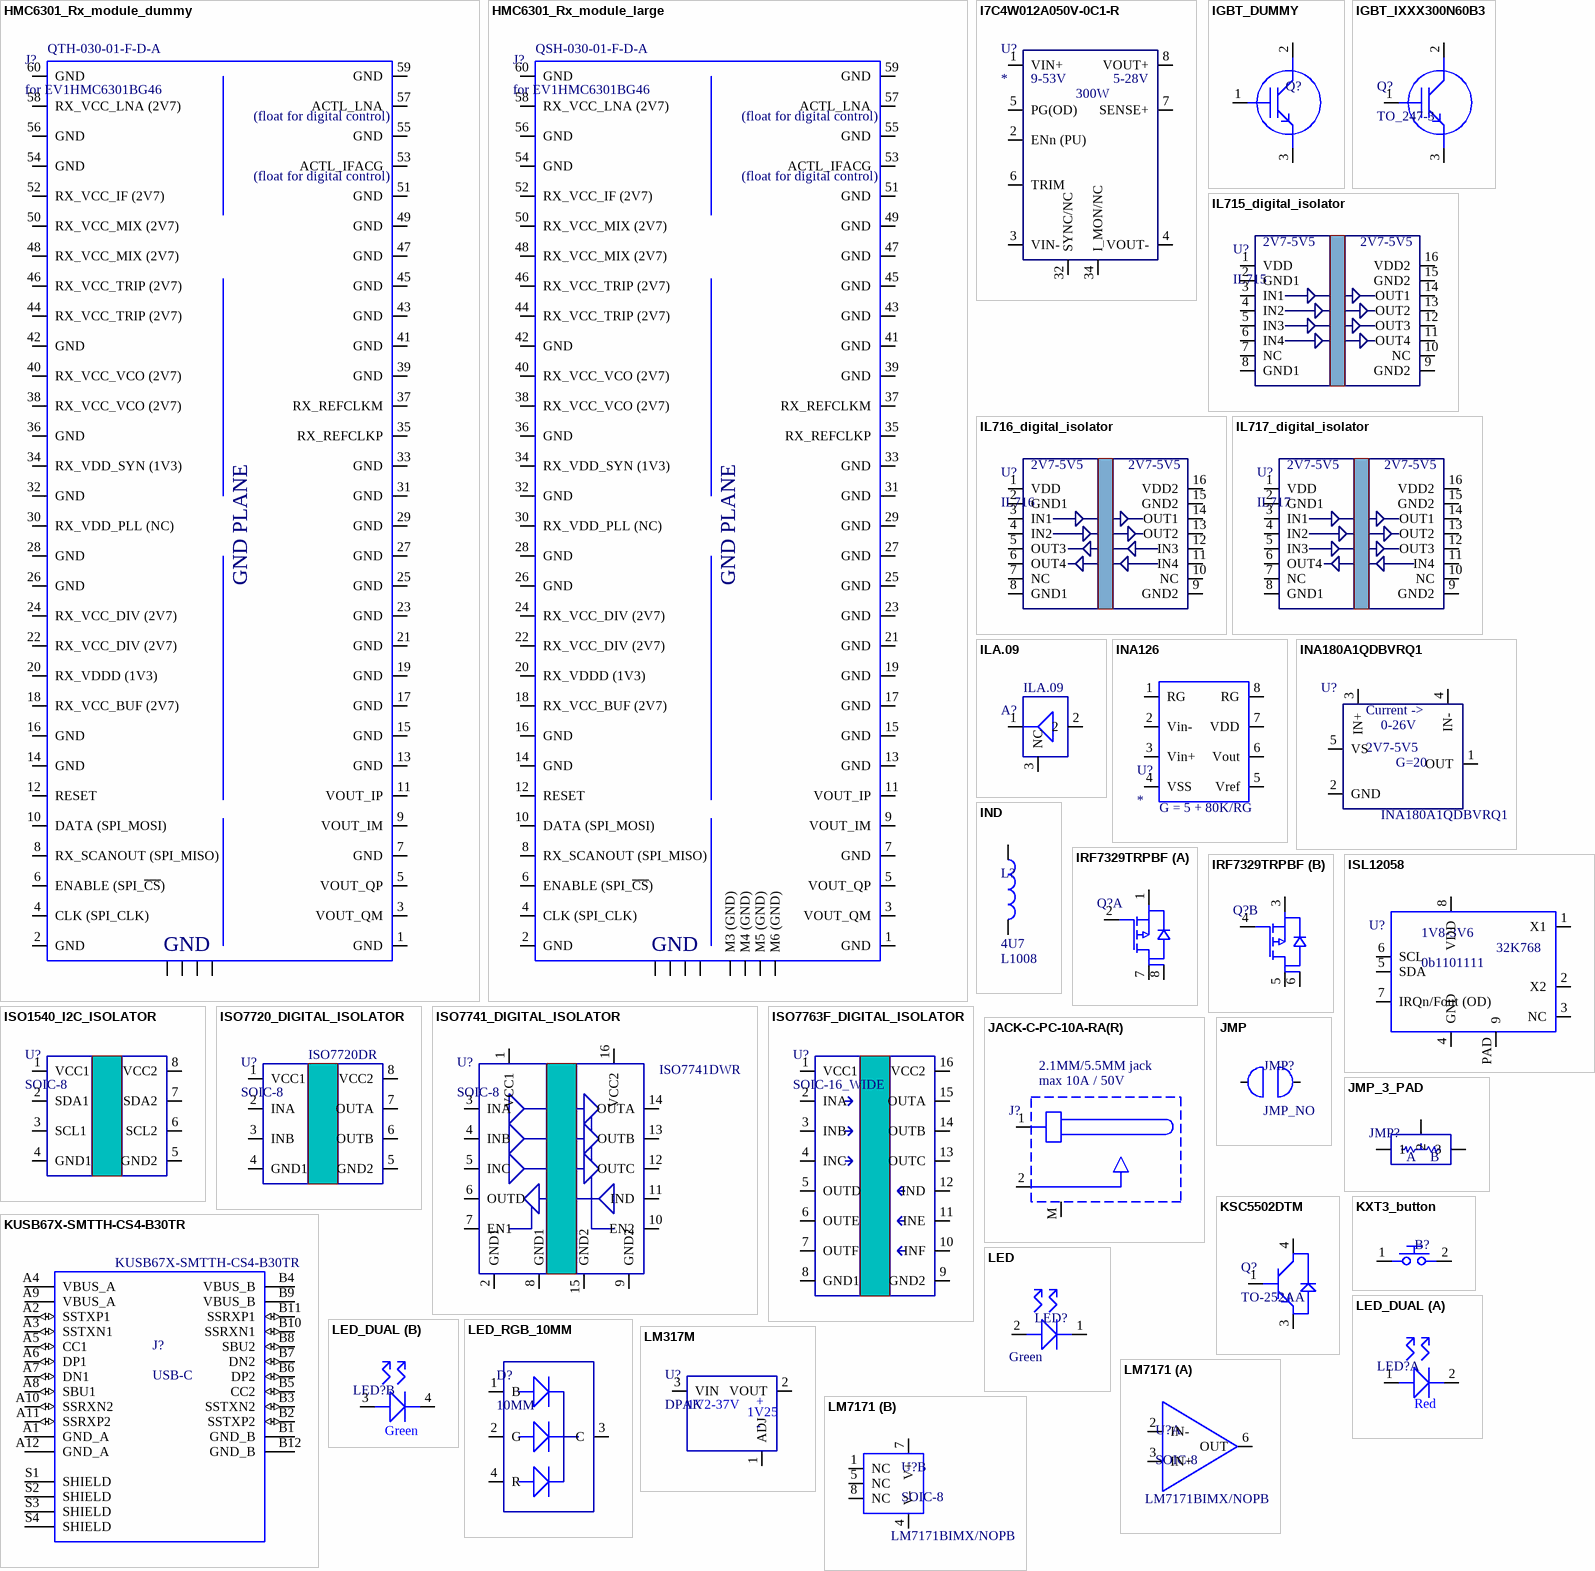
[diagram p10: symbols HMC6301_Rx_module_dummy to LM7171]

## HMC6301_Rx_module_dummy
designator J?, comment for EV1HMC6301BG46  MfgPartNumber: QTH-030-01-F-D-A
60-pin connector + 4 mounting holes; Manufacturer: Samtec; DigikeyPartNumber: SAM8960-ND
footprint QTH-030-01-F-D-A (CONN HEADER 60POS 0.5MM SMT)
pins: 1 GND, 2 GND, 3 VOUT_QM, 4 CLK (SPI_CLK), 5 VOUT_QP, 6 ENABLE (SPI_~{CS}), 7 GND, 8 RX_SCANOUT (SPI_MISO), 9 VOUT_IM, 10 DATA (SPI_MOSI), 11 VOUT_IP, 12 RESET, 13 GND, 14 GND, 15 GND, 16 GND, 17 GND, 18 RX_VCC_BUF (2V7), 19 GND, 20 RX_VDDD (1V3), 21 GND, 22 RX_VCC_DIV (2V7), 23 GND, 24 RX_VCC_DIV (2V7), 25 GND, 26 GND, 27 GND, 28 GND, 29 GND, 30 RX_VDD_PLL (NC), 31 GND, 32 GND, 33 GND, 34 RX_VDD_SYN (1V3), 35 RX_REFCLKP, 36 GND, 37 RX_REFCLKM, 38 RX_VCC_VCO (2V7), 39 GND, 40 RX_VCC_VCO (2V7), 41 GND, 42 GND, 43 GND, 44 RX_VCC_TRIP (2V7), 45 GND, 46 RX_VCC_TRIP (2V7), 47 GND, 48 RX_VCC_MIX (2V7), 49 GND, 50 RX_VCC_MIX (2V7), 51 GND, 52 RX_VCC_IF (2V7), 53 ACTL_IFACG, 54 GND, 55 GND, 56 GND, 57 ACTL_LNA, 58 RX_VCC_LNA (2V7), 59 GND, 60 GND, G1, G2, G3, G4
text: (float for digital control); GND PLANE

## HMC6301_Rx_module_large
designator J?, comment for EV1HMC6301BG46  MfgPartNumber: QSH-030-01-F-D-A
60-pin connector + 4 mounting holes; Manufacturer: Samtec; DigikeyPartNumber: SAM10650-ND
footprint HMC6301_RX_MODULE (connector + mounting holes for HMC6301 demo module)
pins: 1 GND, 2 GND, 3 VOUT_QM, 4 CLK (SPI_CLK), 5 VOUT_QP, 6 ENABLE (SPI_~{CS}), 7 GND, 8 RX_SCANOUT (SPI_MISO), 9 VOUT_IM, 10 DATA (SPI_MOSI), 11 VOUT_IP, 12 RESET, 13 GND, 14 GND, 15 GND, 16 GND, 17 GND, 18 RX_VCC_BUF (2V7), 19 GND, 20 RX_VDDD (1V3), 21 GND, 22 RX_VCC_DIV (2V7), 23 GND, 24 RX_VCC_DIV (2V7), 25 GND, 26 GND, 27 GND, 28 GND, 29 GND, 30 RX_VDD_PLL (NC), 31 GND, 32 GND, 33 GND, 34 RX_VDD_SYN (1V3), 35 RX_REFCLKP, 36 GND, 37 RX_REFCLKM, 38 RX_VCC_VCO (2V7), 39 GND, 40 RX_VCC_VCO (2V7), 41 GND, 42 GND, 43 GND, 44 RX_VCC_TRIP (2V7), 45 GND, 46 RX_VCC_TRIP (2V7), 47 GND, 48 RX_VCC_MIX (2V7), 49 GND, 50 RX_VCC_MIX (2V7), 51 GND, 52 RX_VCC_IF (2V7), 53 ACTL_IFACG, 54 GND, 55 GND, 56 GND, 57 ACTL_LNA, 58 RX_VCC_LNA (2V7), 59 GND, 60 GND, G1, G2, G3, G4, M3 M3 (GND), M4 M4 (GND), M5 M5 (GND), M6 M6 (GND)
text: (float for digital control); GND PLANE

## I7C4W012A050V-0C1-R
designator U?
DC DC CONVERTER 5-28V 300W; Manufacturer: TDK-Lamba Americas Inc.; MfgPartNumber: I7C4W012A050V-0C1-R; DigikeyPartNumber: 285-I7C4W012A050V-0C1-R-ND
footprint I7C4W012A050V-0C1-R (300W DC-DC converter)
pins: 1 VIN+, 2 ENn (PU), 3 VIN-, 4 VOUT-, 5 PG(OD), 6 TRIM, 7 SENSE+, 8 VOUT+, 32 SYNC/NC, 34 I_MON/NC
text: 9-53V; 5-28V; 300W

## IGBT_DUMMY
designator Q?
pins: 1 B, 2 C, 3 E

## IGBT_IXXX300N60B3
designator Q?
IGBT 600V 550A 2300W TO247; MfgPartNumber: IXXX300N60B3; Manufacturer: IXYS; DigikeyPartNumber: IXXX300N60B3-ND
footprint TO_247-3 (large transistor package for IXYS IGBT)
pins: 1 B, 2 C, 3 E

## IL715_digital_isolator
designator U?, comment IL715
DGTL ISO 2.5KV GEN PURP 16SOIC; Manufacturer: NVE Corp; MfgPartNumber: IL715-3; DigikeyPartNumber: 390-1012-5-ND
footprint SOIC-16
pins: 1 VDD, 2 GND1, 3 IN1, 4 IN2, 5 IN3, 6 IN4, 7 NC, 8 GND1, 9 GND2, 10 NC, 11 OUT4, 12 OUT3, 13 OUT2, 14 OUT1, 15 GND2, 16 VDD2
text: 2V7-5V5

## IL716_digital_isolator
designator U?, comment IL716
DGTL ISO 2.5KV GEN PURP 16SOIC; Manufacturer: NVE Corp; MfgPartNumber: IL716-3; DigikeyPartNumber: 390-1013-5-ND
footprint SOIC-16
pins: 1 VDD, 2 GND1, 3 IN1, 4 IN2, 5 OUT3, 6 OUT4, 7 NC, 8 GND1, 9 GND2, 10 NC, 11 IN4, 12 IN3, 13 OUT2, 14 OUT1, 15 GND2, 16 VDD2
text: 2V7-5V5

## IL717_digital_isolator
designator U?, comment IL717
DGTL ISO 2.5KV GEN PURP 16SOIC; Manufacturer: NVE Corp; MfgPartNumber: IL717-3; DigikeyPartNumber: 390-1014-5-ND
footprint SOIC-16
pins: 1 VDD, 2 GND1, 3 IN1, 4 IN2, 5 IN3, 6 OUT4, 7 NC, 8 GND1, 9 GND2, 10 NC, 11 IN4, 12 OUT3, 13 OUT2, 14 OUT1, 15 GND2, 16 VDD2
text: 2V7-5V5

## ILA.09
designator A?  MfgPartNumber: ILA.09  (hidden comment: *)
ANTENNA 915MHZ SMD 5x3x0.5MM; Manufacturer: Taoglas; DigikeyPartNumber: 931-1474-1-ND
footprint ILA.09 (SMD antenna 915MHz)
pins: 1 FEED, 2, 3 NC

## INA126
designator U?
IC OPAMP INSTR 200KHZ; Manufacturer: Texas Instruments; MfgPartNumber: INA126; DigikeyPartNumber: Lookup (package)
footprint SOIC-8
footprint VSSOP-8 (small outline package)
pins: 1 RG, 2 Vin-, 3 Vin+, 4 VSS, 5 Vref, 6 Vout, 7 VDD, 8 RG
text: G = 5 + 80K/RG

## INA180A1QDBVRQ1
designator U?  MfgPartNumber: INA180A1QDBVRQ1  (hidden comment: *)
Current Sense Amplifier 1 Circuit Rail-to-Rail SOT-23-5; Manufacturer: Texas Instruments; DigikeyPartNumber: 296-INA180A1QDBVRQ1CT-ND
footprint SOT23-5
pins: 1 OUT, 2 GND, 3 IN+, 4 IN-, 5 VS
text: Current ->; 0-26V; 2V7-5V5; G=20

## IND
designator L?  value 4U7  (hidden comment: *)
Inductor; Manufacturer: Lookup; MfgPartNumber: Lookup; DigikeyPartNumber: Lookup
footprint L1008 (surface mount inductor 1008)
footprint L0805 (surface mount inductor 0805)
footprint L0603 (surface mount inductor 0603)
footprint L1210_MIN (surface mount inductor 1210 minimum footprint)
footprint L0402
pins: 1, 2

## IRF7329TRPBF
designator Q?
MOSFET 2P-CH 12V 9.2A 8-SOIC; MfgPartNumber: Infineon Technologies; Manufacturer: IRF7329TRPBF; DigikeyPartNumber: IRF7329PBFCT-ND
footprint SOIC-8
part A pins: 1 S, 2 G, 7 D, 8 D
part B pins: 3 S, 4 G, 5 D, 6 D

## ISL12058
designator U?  (value not drawn)
IC RTC CLK/CALENDAR I2C 8-TDFN; MfgPartNumber: ISL12058IRTZ; Manufacturer: Renesas; DigikeyPartNumber: ISL12058IRTZ-ND
footprint DFN-8_PAD_3x3_0MM65 (3x3mm DFN 8 w/ power pad, 0.65mm lead spacing)
pins: 1 X1, 2 X2, 3 NC, 4 GND, 5 SDA, 6 SCL, 7 IRQn/Fout (OD), 8 VDD, PAD 9
text: 1V8-3V6; 32K768; 0b1101111

## ISO1540_I2C_ISOLATOR
designator U?, comment SOIC-8
DGTL ISO 2.5KV 2CH I2C 8SOIC; MfgPartNumber: ISO1540DR; Manufacturer: Texas Instruments; DigikeyPartNumber: 296-34871-1-ND
footprint SOIC-8
pins: 1 VCC1, 2 SDA1, 3 SCL1, 4 GND1, 5 GND2, 6 SCL2, 7 SDA2, 8 VCC2

## ISO7720_DIGITAL_ISOLATOR
designator U?, comment SOIC-8  MfgPartNumber: ISO7720DR
DGTL ISO 3KV GEN PRP 8SOIC; Manufacturer: Texas Instruments; DigikeyPartNumber: 296-47780-1-ND
footprint SOIC-8
pins: 1 VCC1, 2 INA, 3 INB, 4 GND1, 5 GND2, 6 OUTB, 7 OUTA, 8 VCC2

## ISO7741_DIGITAL_ISOLATOR
designator U?, comment SOIC-8  MfgPartNumber: ISO7741DWR
DGTL ISO 5KV 4CH GEN PURP 16SOIC; Manufacturer: Texas Instruments; DigikeyPartNumber: 296-47781-1-ND
footprint SOIC-16_wide (16 pins SMT 7.6x10.5mm)
pins: 1 VCC1, 2 GND1, 3 INA, 4 INB, 5 INC, 6 OUTD, 7 EN1, 8 GND1, 9 GND2, 10 EN2, 11 IND, 12 OUTC, 13 OUTB, 14 OUTA, 15 GND2, 16 VCC2

## ISO7763F_DIGITAL_ISOLATOR
designator U?, comment SOIC-16_WIDE
Digital Isolator 3000Vrms 6 Channel 100Mbps; Manufacturer: Texas Instruments; MfgPartNumber: ISO7763FDW; DigikeyPartNumber: 296-47571-ND
footprint SOIC-16_WIDE (16 pins SMT 7.6x10.5mm)
pins: 1 VCC1, 2 INA, 3 INB, 4 INC, 5 OUTD, 6 OUTE, 7 OUTF, 8 GND1, 9 GND2, 10 INF, 11 INE, 12 IND, 13 OUTC, 14 OUTB, 15 OUTA, 16 VCC2

## JACK-C-PC-10A-RA(R)
designator J?, comment 50V,10A  (value not drawn)
PC MOUNTABLE JACK FOR 5.5X2.1MM; MfgPartNumber: JACK-C-PC-10A-RA(R); Manufacturer: GlobTek; DigikeyPartNumber: 1939-1086-ND
footprint JACK-C-PC-10A-RA(R) (Footprint not found)
pins: 1, 2, M
text: 2.1MM/5.5MM jack; max 10A / 50V

## JMP
designator JMP?, comment Not a part  (value not drawn)
Solder Jumper. No BOM item.
footprint JMP_NC (Solder Jumper, Normally Closed)
footprint JMP_NO (Solder Jumper, Normally Open)
pins: 1, 2

## JMP_3_PAD
designator JMP?  (value not drawn)
3 pads to place 1 resistor
footprint R0603_3-pad (3-pad resistor for 0-ohm jumper shorting)
pins: 1, 2, 3
text: A; B

## KSC5502DTM
designator Q?, comment TO-252AA
TRANS NPN 600V 2A DPAK; Manufacturer: ON Semiconductor; MfgPartNumber: KSC5502DTM; DigikeyPartNumber: KSC5502DTMCT-ND; VceMax: 600V; IcMax: 2A
footprint TO-252AA (surface mount transistor 50W 7x11x3mm)
pins: 1, 3, 4

## KUSB67X-SMTTH-CS4-B30TR
designator J?, comment USB-C  MfgPartNumber: KUSB67X-SMTTH-CS4-B30TR
USB-C (USB TYPE-C) Receptacle Connector 24 Position Surface Mount, Right Angle; Through Hole; Manufacturer: Kycon; DigikeyPartNumber: 2092-KUSB67X-SMTTH-CS4-B30CT-ND
footprint KUSB67X-SMTTH-CS4-B30TR (USB-C SMT/TH)
pins: A1 GND_A (power), A2 SSTXP1 (io), A3 SSTXN1 (io), A4 VBUS_A (power), A5 CC1 (io), A6 DP1 (io), A7 DN1 (io), A8 SBU1 (io), A9 VBUS_A (power), A10 SSRXN2 (io), A11 SSRXP2 (io), A12 GND_A (power), B1 GND_B (power), B2 SSTXP2 (io), B3 SSTXN2 (io), B4 VBUS_B (power), B5 CC2 (io), B6 DP2 (io), B7 DN2 (io), B8 SBU2 (io), B9 VBUS_B (power), B10 SSRXN1 (io), B11 SSRXP1 (io), B12 GND_B (power), S1 SHIELD, S2 SHIELD, S3 SHIELD, S4 SHIELD

## KXT3_button
designator B?, comment KXT331LHS  (value not drawn)
SWITCH TACTILE SPST-NO 0.02A 15V; MfgPartNumber: PTS645SM43SMTR92 LFS; DigikeyPartNumber: CKN10779CT-ND; Manufacturer: KXT331LHS
footprint KXT3_button (For KXT3 line of tactile buttons)
pins: 1, 2

## LED
designator LED?, comment Green
LED; Manufacturer: Lookup; MfgPartNumber: Lookup; DigikeyPartNumber: Lookup; Color: Green
footprint LED0402 (0402 w/ LED mark)
footprint LED0603 (0603 w/ LED mark)
footprint LED0201 (0201 w/ LED mark, Experimental)
footprint LED_TH_OVAL_GREEN (For CREE C5SMF series)
footprint LED_TH_OVAL_RED (For CREE C5SMF series)
footprint LED1206 (Chip_LED; Body 3.2 x 1.8 mm (LxW typ))
pins: 1, 2

## LED_DUAL
designator LED?, comment dual_R/G_LED  (value not drawn)
LED GREEN/RED CLEAR 0606; Manufacturer: Kingbright; MfgPartNumber: APTB1615ESGC-F01; DigikeyPartNumber: 754-1149-1-ND
footprint LED0606 (dual LED package)
part A pins: 1, 2
part B pins: 3, 4
part A text: Red
part B text: Green

## LED_RGB_10MM
designator D?, comment 10MM
LED RGB DIFFUSED T/H 10MM; Manufacturer: Sparkfun; MfgPartNumber: COM-11120; DigikeyPartNumber: 1568-1215-ND
footprint LED_10MM (for 4-pin RGB LED)
pins: 1 B, 2 G, 3 C, 4 R

## LM317M
designator U?
IC REG LINEAR POS ADJ 500MA DPAK; MfgPartNumber: LM317MDTRKG; Manufacturer: ON Semiconductor; DigikeyPartNumber: LM317MDTRKGOSCT-ND
footprint DPAK (3-pin SMD)
pins: 1 ADJ, 2 VOUT, 3 VIN
text: 1V2-37V; +; 1V25; -

## LM7171
designator U?, comment SOIC-8  MfgPartNumber: LM7171BIMX/NOPB
Voltage Feedback Amplifier 1 Circuit 8-SOIC; Manufacturer: TI; GBWP: 200MHz; Slew: 4100V/us; DigikeyPartNumber: LM7171BIMX/NOPBCT-ND
footprint SOIC-8
part A pins: 2 IN-, 3 IN+, 6 OUT
part B pins: 1 NC, 4 V-, 5 NC, 7 V+, 8 NC

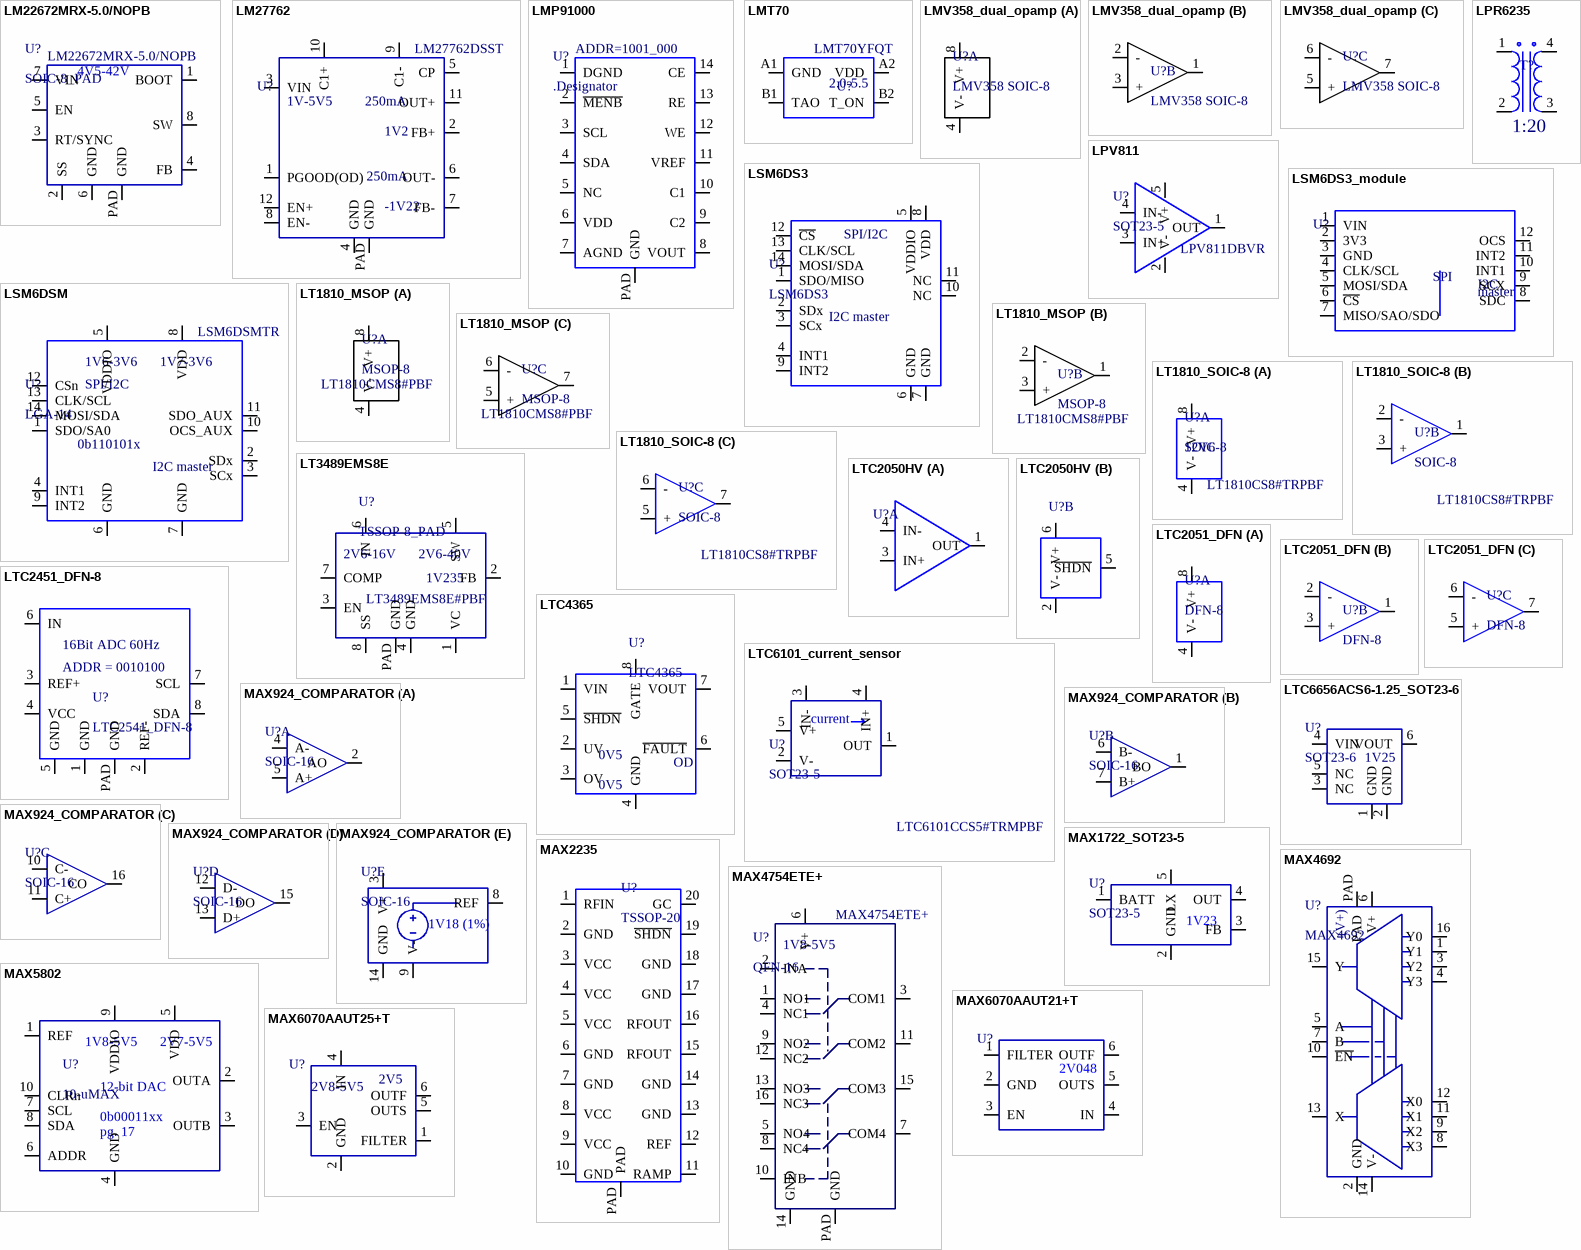
[diagram p11: symbols LM22672MRX-5.0/NOPB to MAX6070AAUT25+T]

## LM22672MRX-5.0/NOPB
designator U?, comment SOIC-8_PAD  MfgPartNumber: LM22672MRX-5.0/NOPB
IC REG BUCK 5V 1A 8SOPWR; Manufacturer: TI; DigikeyPartNumber: 296-38090-1-ND
footprint SOIC-8_PAD (Standard SOIC_8 + power pad)
pins: 1 BOOT, 2 SS, 3 RT/SYNC, 4 FB, 5 EN, 6 GND, 7 VIN, 8 SW, PAD GND
text: 4V5-42V

## LM27762
designator U?, comment MfgPartNumber: LM27762DSST  (hidden comment: WSON-12)
Manufacturer: Texas Instruments; DigikeyPartNumber: 296-44944-1-ND
footprint WSON-12_PAD (3x2x0.8mm 12 pins + thermal pad)
pins: 1 PGOOD(OD), 2 FB+, 3 VIN, 4 GND, 5 CP, 6 OUT-, 7 FB-, 8 EN-, 9 C1-, 10 C1+, 11 OUT+, 12 EN+, PAD GND
text: 1V-5V5; 250mA; 1V2; -1V22

## LMP91000
designator U?, comment .Designator
Analog Front End, Potentiostat; Manufacturer: TI; MfgPartNumber: LMP91000SDE/NOPB; DigikeyPartNumber: LMP91000SDE/NOPBCT-ND
footprint WSON-14
pins: 1 DGND, 2 ~{MENB}, 3 SCL, 4 SDA, 5 NC, 6 VDD, 7 AGND, 8 VOUT, 9 C2, 10 C1, 11 VREF, 12 WE, 13 RE, 14 CE, PAD GND
text: ADDR=1001_000

## LMT70
designator U?  MfgPartNumber: LMT70YFQT  (hidden comment: *)
Temperature Sensor, analog output; Manufacturer: Texas Instruments; DigikeyPartNumber: 296-42088-1-ND
footprint DSBGA-4 (4-ball BGA 0.9x0.9mm for LMT70)
pins: A1 GND, A2 VDD, B1 TAO, B2 T_ON
text: 2.0-5.5

## LMV358_dual_opamp
designator U?, comment LMV358 SOIC-8
dual op-amp in SOIC-8 package. Pin-compatible with OPA1612; Manufacturer: ON Semiconductor; MfgPartNumber: LMV358DR2G; DigikeyPartNumber: LMV358DR2GOSCT-ND
footprint SOIC-8
part A pins: 4 V-, 8 V+
part B pins: 1, 2 -, 3 +
part C pins: 5 +, 6 -, 7

## LPR6235
designator T?  (value not drawn)
coupled inductors 1:20 turn ratio; Manufacturer: Coilcraft; MfgPartNumber: LPR6235-253PML
footprint LPR6235_transformer (microtransformer surface mount)
pins: 1, 2, 3, 4
text: 1:20

## LPV811
designator U?, comment SOT23-5  MfgPartNumber: LPV811DBVR
IC OP AMP RAIL-RAIL 8KHZ 5-SOT23; Manufacturer: Texas Instruments; DigikeyPartNumber: 296-47342-1-ND
footprint SOT23-5
pins: 1 OUT, 2 V-, 3 IN+, 4 IN-, 5 V+

## LSM6DS3
designator U?
Manufacturer: STMicroelectronics; MfgPartNumber: LSM6DS3TR; DigikeyPartNumber: 497-15383-1-ND
footprint LGA-14 (for BMI160)
pins: 1 SDO/MISO, 2 SDx, 3 SCx, 4 INT1, 5 VDDIO, 6 GND, 7 GND, 8 VDD, 9 INT2, 10 NC, 11 NC, 12 ~{CS}, 13 CLK/SCL, 14 MOSI/SDA
text: SPI/I2C; I2C master

## LSM6DS3_module
designator U?  (value not drawn)
footprint LSM6DS3_module (double row 0.1in header)
pins: 1 VIN, 2 3V3, 3 GND, 4 CLK/SCL, 5 MOSI/SDA, 6 ~{CS}, 7 MISO/SAO/SDO, 8 SDC, 9 SCX, 10 INT1, 11 INT2, 12 OCS
text: SPI; I2C; master

## LSM6DSM
designator U?, comment LGA-14  MfgPartNumber: LSM6DSMTR
Accelerometer, Gyroscope, Temperature, 6 Axis Sensor I²C, SPI Output; Manufacturer: STMicroelectronics; DigikeyPartNumber: 497-16696-1-ND
footprint LGA-14 (for BMI160)
pins: 1 SDO/SA0, 2 SDx, 3 SCx, 4 INT1, 5 VDDIO, 6 GND, 7 GND, 8 VDD, 9 INT2, 10 OCS_AUX, 11 SDO_AUX, 12 CSn, 13 CLK/SCL, 14 MOSI/SDA
text: 1V6-3V6; 1V7-3V6; SPI/I2C; 0b110101x; I2C master

## LT1810_MSOP
designator U?, comment MSOP-8  MfgPartNumber: LT1810CMS8#PBF
IC OPAMP GP 180MHZ RRO 8MSOP; Manufacturer: Linear Technology; DigikeyPartNumber: LT1810CMS8#PBF-ND
footprint MSOP-8 (3x3mm + leads, 8 pins SMD)
part A pins: 4 V-, 8 V+
part B pins: 1, 2 -, 3 +
part C pins: 5 +, 6 -, 7

## LT1810_SOIC-8
designator U?, comment SOIC-8  MfgPartNumber: LT1810CS8#TRPBF
IC OPAMP 180MHZ RRO 350V/US 8SO; Manufacturer: Linear Technology; DigikeyPartNumber: LT1810CS8#TRPBFCT-ND
footprint SOIC-8
part A pins: 4 V-, 8 V+
part B pins: 1, 2 -, 3 +
part C pins: 5 +, 6 -, 7
part A text: 12V6

## LT3489EMS8E
designator U?, comment TSSOP-8_PAD  MfgPartNumber: LT3489EMS8E#PBF
IC REG BOOST ADJ 2.5A 8MSOP; Manufacturer: Linear Technology; DigikeyPartNumber: LT3489EMS8E#PBF-ND
footprint TSSOP-8_PAD (8-pin SMT with power pad)
pins: 1 VC, 2 FB, 3 EN, 4 GND, 5 SW, 6 IN, 7 COMP, 8 SS, PAD GND
text: 2V6-16V; 2V6-40V; 1V235

## LTC2050HV
designator U?  (value not drawn)
Zero-Drift Amplifier 1 Circuit Rail-to-Rail TSOT-23-6; MfgPartNumber: LTC2050HVCS6#TRMPBF; Manufacturer: Linear Technology; DigikeyPartNumber: LTC2050HVCS6#TRMPBFCT-ND
footprint SOT23-6
part A pins: 1 OUT, 3 IN+, 4 IN-
part B pins: 2 V-, 5 ~{SHDN}, 6 V+

## LTC2051_DFN
designator U?, comment DFN-8
dual op-amp in SOIC-8 package; Manufacturer: Linear Technology; MfgPartNumber: LTC2051IDD#TRPBF; DigikeyPartNumber: LTC2051IDD#TRPBFCT-ND
footprint DFN-8_PAD_3x3 (3x3mm DFN 8 w/ power pad, used with LTC2051)
part A pins: 4 V-, 8 V+
part B pins: 1, 2 -, 3 +
part C pins: 5 +, 6 -, 7

## LTC2451_DFN-8
designator U?, comment LTC2541_DFN-8
ADC 16BIT 60Hz DELTA SIGMA 8DFN I2C; Manufacturer: Linear Technology; MfgPartNumber: LTC2451CDDB#TRMPBF; DigikeyPartNumber: LTC2451CDDB#TRMPBFCT-ND
footprint DFN-8_PAD (3x2mm DFN 8 w/ power pad)
pins: 1 GND, 2 REF-, 3 REF+, 4 VCC, 5 GND, 6 IN, 7 SCL, 8 SDA, PAD GND
text: 16Bit ADC 60Hz; ADDR = 0010100

## LTC4365
designator U?
IC OVERVOLTAGE PROT TSOT23-8; MfgPartNumber: LTC4365CTS8#TRMPBF; Manufacturer: Linear Technology; DigikeyPartNumber: LTC4365CTS8#TRMPBFCT-ND
footprint SOT23-8 (8-pin SMT 3x3mm)
pins: 1 VIN, 2 UV, 3 OV, 4 GND, 5 ~{SHDN}, 6 ~{FAULT}, 7 VOUT, 8 GATE
text: 0V5; OD

## LTC6101_current_sensor
designator U?, comment SOT23-5  MfgPartNumber: LTC6101CCS5#TRMPBF
Current Sense Amplifier 1 Circuit TSOT-23-5; Manufacturer: Linear Technology; DigikeyPartNumber: LTC6101CCS5#TRMPBFCT-ND
footprint SOT23-5
pins: 1 OUT, 2 V-, 3 IN-, 4 IN+, 5 V+
text: current

## LTC6656ACS6-1.25_SOT23-6
designator U?, comment SOT23-6
Series Voltage Reference IC ±0.05% 5mA TSOT-23-6 10ppm/C; MfgPartNumber: LT6656ACS6-1.25#TRMPBF; Manufacturer: Linear Technology; DigikeyPartNumber: LT6656ACS6-1.25#TRMPBFCT-ND
footprint SOT23-6
pins: 1 GND, 2 GND, 3 NC, 4 VIN, 5 NC, 6 VOUT
text: 1V25

## MAX924_COMPARATOR
designator U?, comment SOIC-16
COMP QUAD LOW PWR 16SOIC; Manufacturer: Maxim Integrated; MfgPartNumber: MAX924CSE+; DigikeyPartNumber: MAX924CSE+-ND
footprint SOIC-16
part A pins: 2 AO   , 4 A-, 5 A+
part B pins: 1 BO   , 6 B-, 7 B+
part C pins: 10 C-, 11 C+, 16 CO   
part D pins: 12 D-, 13 D+, 15 DO   
part E pins: 3 V+, 8 REF, 9 V-, 14 GND
part E text: 1V18 (1%)

## MAX1722_SOT23-5
designator U?, comment SOT23-5
IC REG BST ADJ 0.4A SYNC TSOT23; MfgPartNumber: MAX1722EZK+T; Manufacturer: Maxim Integrated; DigikeyPartNumber: MAX1722EZK+TCT-ND
footprint SOT23-5
pins: 1 BATT, 2 GND, 3 FB, 4 OUT, 5 LX
text: 1V23

## MAX2235
designator U?, comment TSSOP-20
IC AMP POWER 900MHZ 20TSSOP; Manufacturer: Maxim; MfgPartNumber: MAX2235EUP+; DigikeyPartNumber: MAX2235EUP+-ND
footprint TSSOP-20_PAD (20-pin SMT with power pad)
pins: 1 RFIN, 2 GND, 3 VCC, 4 VCC, 5 VCC, 6 GND, 7 GND, 8 VCC, 9 VCC, 10 GND, 11 RAMP, 12 REF, 13 GND, 14 GND, 15 RFOUT, 16 RFOUT, 17 GND, 18 GND, 19 ~{SHDN}, 20 GC, PAD

## MAX4692
designator U?
IC MULTIPLEXER DUAL 4X1 16TQFN; MfgPartNumber: MAX4692ETE+; Manufacturer: Maxim; DigikeyPartNumber: MAX4692ETE+-ND
footprint TQFN-16_PAD (4x4x0.75mm QFN 16pins + pad)
pins: 1 Y1, 2 GND, 3 Y2, 4 Y3, 5 A, 6 V+, 7 B, 8 X3, 9 X2, 10 ~{EN}, 11 X1, 12 X0, 13 X, 14 V-, 15 Y, 16 Y0, PAD
text: (V+)

## MAX4754ETE+
designator U?, comment QFN-16  MfgPartNumber: MAX4754ETE+
Circuit IC Switch 2:1 850mOhm 16-TQFN (4x4); Manufacturer: Maxim; DigikeyPartNumber: MAX4754ETE+-ND
footprint TQFN-16_PAD (4x4x0.75mm QFN 16pins + pad)
pins: 1 NO1, 2 INA, 3 COM1, 4 NC1, 5 NO4, 6 V+, 7 COM4, 8 NC4, 9 NO2, 10 INB, 11 COM2, 12 NC2, 13 NO3, 14 GND, 15 COM3, 16 NC3, PAD GND
text: 1V8-5V5

## MAX5802
designator U?, comment 10-uMAX
Manufacturer: Maxim; MfgPartNumber: MAX5802BAUB+; DigikeyPartNumber: MAX5802BAUB+-ND
footprint MSOP-10_micro (3x3mm + leads, 10 pins SMD, 1.1mm tall)
pins: 1 REF, 2 OUTA, 3 OUTB, 4 GND, 5 VDD, 6 ADDR, 7 SCL, 8 SDA, 9 VDDIO, 10 CLRn
text: 1V8-5V5; 2V7-5V5; 12-bit DAC; 0b00011xx; pg. 17

## MAX6070AAUT21+T
designator U?, comment SOT23-6  (value not drawn)
IC VREF SERIES 2.048V SOT23-6; Manufacturer: Maxim Integrated; MfgPartNumber: MAX6070AAUT21+T; accuracy: +/-0.04%; temperature coefficient: 6ppm/C; DigikeyPartNumber: MAX6070AAUT21+TCT-ND
footprint SOT23-6
pins: 1 FILTER, 2 GND, 3 EN , 4 IN, 5 OUTS, 6 OUTF
text: 2V048

## MAX6070AAUT25+T
designator U?, comment SOT23-6  (value not drawn)
IC VREF SERIES 2.5V SOT23-6; Manufacturer: Maxim Integrated; MfgPartNumber: MAX6070AAUT25+T; accuracy: +/-0.04%; temperature coefficient: 6ppm/C; DigikeyPartNumber: MAX6070AAUT25+TCT-ND
footprint SOT23-6
pins: 1 FILTER, 2 GND, 3 EN , 4 IN, 5 OUTS, 6 OUTF
text: 2V5; 2V8-5V5

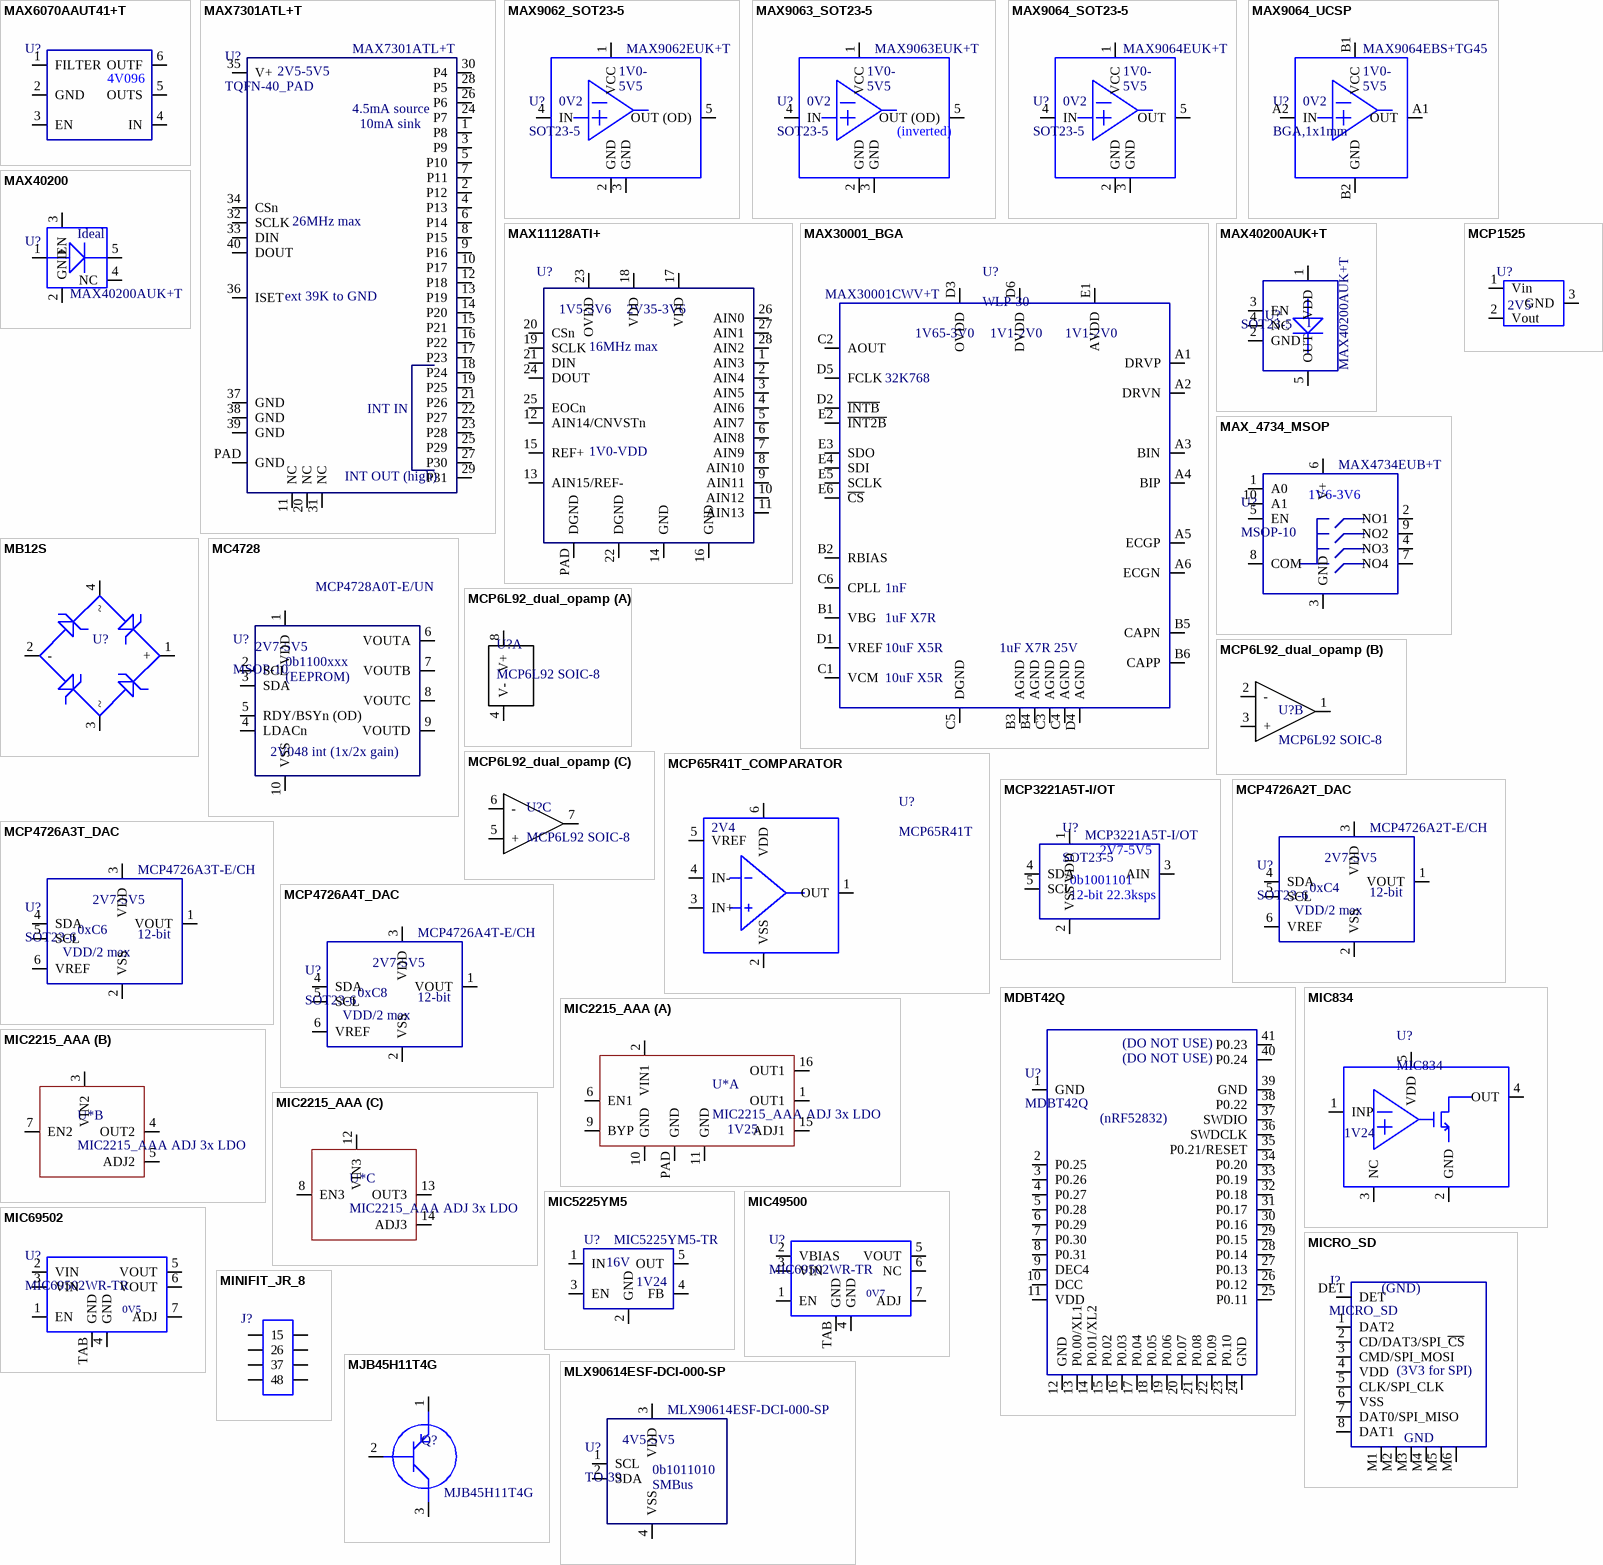
[diagram p12: symbols MAX6070AAUT41+T to MLX90614ESF-DCI-000-SP]

## MAX6070AAUT41+T
designator U?, comment SOT23-6  (value not drawn)
IC VREF SERIES 4.096V SOT23-6; Manufacturer: Maxim Integrated; MfgPartNumber: MAX6070AAUT41+T; accuracy: +/-0.04%; temperature coefficient: 6ppm/C; DigikeyPartNumber: MAX6070AAUT41+TCT-ND
footprint SOT23-6
pins: 1 FILTER, 2 GND, 3 EN , 4 IN, 5 OUTS, 6 OUTF
text: 4V096

## MAX7301ATL+T
designator U?  MfgPartNumber: MAX7301ATL+T
I/O Expander 28 SPI 26MHz 40-TQFN-EP (6x6); Manufacturer: Maxim; DigikeyPartNumber: MAX7301ATL+CT-ND
footprint TQFN-40_PAD (6x6mm QFN 40-pin w power pad)
pins: 1 P8, 2 P12, 3 P9, 4 P13, 5 P10, 6 P14, 7 P11, 8 P15, 9 P16, 10 P17, 11 NC, 12 P18, 13 P19, 14 P20, 15 P21, 16 P22, 17 P23, 18 P24, 19 P25, 20 NC, 21 P26, 22 P27, 23 P28, 24 P7, 25 P29, 26 P6, 27 P30, 28 P5, 29 P31, 30 P4, 31 NC, 32 SCLK, 33 DIN, 34 CSn, 35 V+, 36 ISET, 37 GND, 38 GND, 39 GND, 40 DOUT, PAD GND
text: 2V5-5V5; 4.5mA source; 10mA sink; 26MHz max; ext 39K to GND; INT IN; INT OUT (high)

## MAX9062_SOT23-5
designator U?, comment SOT23-5  MfgPartNumber: MAX9062EUK+T
comparator, open_drain, internal reference; Manufacturer: Maxim Integrated; DigikeyPartNumber: MAX9062EUK+TCT-ND
footprint SOT23-5
pins: 1 VCC, 2 GND, 3 GND, 4 IN, 5 OUT (OD)
text: 1V0-; 5V5; 0V2

## MAX9063_SOT23-5
designator U?, comment SOT23-5  MfgPartNumber: MAX9063EUK+T
comparator, open_drain, internal reference, inverted output; Manufacturer: Maxim Integrated; DigikeyPartNumber: MAX9063EUK+TCT-ND
footprint SOT23-5
pins: 1 VCC, 2 GND, 3 GND, 4 IN, 5 OUT (OD)
text: 1V0-; 5V5; 0V2; (inverted)

## MAX9064_SOT23-5
designator U?, comment SOT23-5  MfgPartNumber: MAX9064EUK+T
comparator, push-pull, internal reference; Manufacturer: Maxim Integrated; DigikeyPartNumber: MAX9064EUK+TCT-ND
footprint SOT23-5
pins: 1 VCC, 2 GND, 3 GND, 4 IN, 5 OUT
text: 1V0-; 5V5; 0V2

## MAX9064_UCSP
designator U?, comment BGA,1x1mm  MfgPartNumber: MAX9064EBS+TG45
comparator, push-pull, internal reference; Manufacturer: Maxim Integrated; DigikeyPartNumber: MAX9064EBS+TG45CT-ND
footprint UCSP-4 (4-ball BGA 1x1mm for MAX9064)
pins: A1 OUT, A2 IN, B1 VCC, B2 GND
text: 1V0-; 5V5; 0V2

## MAX11128ATI+
designator U?  (value not drawn)
12 Bit Analog to Digital Converter 8, 15, 16 Input 1 SAR 28-TQFN (5x5); MfgPartNumber: MAX11128ATI+; Manufacturer: Maxim; DigikeyPartNumber: MAX11128ATI+-ND
footprint TQFN-28_PAD (28 pin 5x5mm + powerpad)
pins: 1 AIN3, 2 AIN4, 3 AIN5, 4 AIN6, 5 AIN7, 6 AIN8, 7 AIN9, 8 AIN10, 9 AIN11, 10 AIN12, 11 AIN13, 12 AIN14/CNVSTn, 13 AIN15/REF-, 14 GND, 15 REF+, 16 GND, 17 VDD, 18 VDD, 19 SCLK, 20 CSn, 21 DIN, 22 DGND, 23 OVDD, 24 DOUT, 25 EOCn, 26 AIN0, 27 AIN1, 28 AIN2, PAD DGND
text: 1V5-3V6; 2V35-3V6; 16MHz max; 1V0-VDD

## MAX30001_BGA
designator U?, comment WLP-30  MfgPartNumber: MAX30001CWV+T
Biopotential AFE IC Heart Rate Monitoring 30-WLP (2.74x2.93); Manufacturer: Maxim Integrated; DigikeyPartNumber: MAX30001CWV+TCT-ND
footprint WLP-30 (2.7x2.9x0.69mm BGA for MAX30001)
pins: A1 DRVP, A2 DRVN, A3 BIN, A4 BIP, A5 ECGP, A6 ECGN, B1 VBG, B2 RBIAS, B3 AGND, B4 AGND, B5 CAPN, B6 CAPP, C1 VCM, C2 AOUT, C3 AGND, C4 AGND, C5 DGND, C6 CPLL, D1 VREF, D2 ~{INTB}, D3 OVDD, D4 AGND, D5 FCLK, D6 DVDD, E1 AVDD, E2 ~{INT2B}, E3 SDO, E4 SDI, E5 SCLK, E6 ~{CS}
text: 1V65-3V0; 1V1-2V0; 32K768; 1nF; 1uF X7R; 10uF X5R; 1uF X7R 25V

## MAX40200
designator U?  MfgPartNumber: MAX40200AUK+T  (hidden comment: MAX40200)
Manufacturer: Maxim; DigikeyPartNumber: MAX40200AUK+TCT-ND
footprint SOT23-5
pins: 1 VDD, 2 GND, 3 EN, 4 NC, 5 OUT
text: Ideal

## MAX40200AUK+T
designator U?, comment SOT23-5  MfgPartNumber: MAX40200AUK+T
Ideal Diode 85mV @ 1A; Manufacturer: Maxim; DigikeyPartNumber: MAX40200AUK+TCT-ND
footprint SOT23-5
pins: 1 VDD, 2 GND, 3 hidden, 3 EN, 4 NC, 5 OUT
text: I

## MAX_4734_MSOP
designator U?, comment MSOP-10  MfgPartNumber: MAX4734EUB+T
1 Circuit IC Switch 4:1 800mOhm 10-uMAX; Manufacturer: Maxim; DigikeyPartNumber: MAX4734EUB+TCT-ND
footprint MSOP-10_micro (3x3mm + leads, 10 pins SMD, 1.1mm tall)
pins: 1 A0, 2 NO1, 3 GND, 4 NO3, 5 EN, 6 V+, 7 NO4, 8 COM, 9 NO2, 10 A1
text: 1V6-3V6

## MB12S
designator U?  (value not drawn)
Schottky Bridge Rectifier; Manufacturer: MCC; MfgPartNumber: MB12S-TP
footprint MBS-1 (4 pins 4.75 x 6.7mm)
pins: 1 +, 2 -, 3 ~, 4 ~

## MC4728
designator U?, comment MSOP-10  MfgPartNumber: MCP4728A0T-E/UN
IC DAC x 412BIT V-OUT 10MSOP; Manufacturer: Microchip; DigikeyPartNumber: MCP4728A0T-E/UNCT-ND
footprint MSOP-10_micro (3x3mm + leads, 10 pins SMD, 1.1mm tall)
pins: 1 VDD, 2 SCL, 3 SDA, 4 LDACn, 5 RDY/BSYn (OD), 6 VOUTA, 7 VOUTB, 8 VOUTC, 9 VOUTD, 10 VSS
text: 2V7-5V5; 0b1100xxx; (EEPROM); 2V048 int (1x/2x gain)

## MCP6L92_dual_opamp
designator U?, comment MCP6L92 SOIC-8
dual op-amp in SOIC-8 package. Pin-compatible with OPA1612; Manufacturer: Microchip Technology; MfgPartNumber: MCP6L92T-E/SN; DigikeyPartNumber: MCP6L92T-E/SNCT-ND
footprint SOIC-8
part A pins: 4 V-, 8 V+
part B pins: 1, 2 -, 3 +
part C pins: 5 +, 6 -, 7

## MCP65R41T_COMPARATOR
designator U?, comment MCP65R41T
comparator, 2V4 ref, push-pull; MfgPartNumber: MCP65R41T-2402E/CHY; Manufacturer: Microchip Technology; DigikeyPartNumber: MCP65R41T-2402E/CHYCT-ND
footprint SOT23-6
pins: 1 OUT, 2 VSS, 3 IN+, 4 IN-, 5 VREF, 6 VDD
text: 2V4

## MCP1525
designator U?, comment Voltage: 2V5  (hidden comment: ref gen)
IC VREF SERIES 2.5V SOT23-3; MfgPartNumber: MCP1525T-I/TT; Manufacturer: Microchip Technology; DigikeyPartNumber: MCP1525T-I/TTCT-ND
footprint SOT23-3
pins: 1 Vin, 2 Vout, 3 GND

## MCP3221A5T-I/OT
designator U?  MfgPartNumber: MCP3221A5T-I/OT
IC ADC 12BIT 2.7V 1CH LP SOT23-5; Manufacturer: Microchip Technology; DigikeyPartNumber: MCP3221A5T-I/OTCT-ND
footprint SOT23-5
pins: 1 VDD, 2 VSS, 3 AIN, 4 SDA, 5 SCL
text: 2V7-5V5; 0b1001101; 12-bit 22.3ksps

## MCP4726A2T_DAC
designator U?, comment SOT23-6  MfgPartNumber: MCP4726A2T-E/CH
IC DAC 12BIT NV EEP I2C SOT-23-6; Manufacturer: Microchip Technology; DigikeyPartNumber: MCP4726A2T-E/CHCT-ND
footprint SOT23-6
pins: 1 VOUT, 2 VSS, 3 VDD, 4 SDA, 5 SCL, 6 VREF
text: 2V7-5V5; 0xC4; 12-bit; VDD/2 max

## MCP4726A3T_DAC
designator U?, comment SOT23-6  MfgPartNumber: MCP4726A3T-E/CH
IC DAC 12BIT NV EEP I2C SOT-23-6; Manufacturer: Microchip Technology; DigikeyPartNumber: MCP4726A3T-E/CHCT-ND
footprint SOT23-6
pins: 1 VOUT, 2 VSS, 3 VDD, 4 SDA, 5 SCL, 6 VREF
text: 2V7-5V5; 0xC6; 12-bit; VDD/2 max

## MCP4726A4T_DAC
designator U?, comment SOT23-6  MfgPartNumber: MCP4726A4T-E/CH
IC DAC 12BIT NV EEP I2C SOT-23-6; Manufacturer: Microchip Technology; DigikeyPartNumber: MCP4726A4T-E/CHCT-ND
footprint SOT23-6
pins: 1 VOUT, 2 VSS, 3 VDD, 4 SDA, 5 SCL, 6 VREF
text: 2V7-5V5; 0xC8; 12-bit; VDD/2 max

## MDBT42Q
designator U?
MDBT42Q NRF52832 BASED BLE MODULE; Manufacturer: Seeed Technologoy Co.; MfgPartNumber: 317030213; DigikeyPartNumber: 1597-1434-ND
footprint MDBT42Q (for MDBT42Q nRF52832 BLE module)
pins: 1 GND, 2 P0.25, 3 P0.26, 4 P0.27, 5 P0.28, 6 P0.29, 7 P0.30, 8 P0.31, 9 DEC4, 10 DCC, 11 VDD, 12 GND, 13 P0.00/XL1, 14 P0.01/XL2, 15 P0.02, 16 P0.03, 17 P0.04, 18 P0.05, 19 P0.06, 20 P0.07, 21 P0.08, 22 P0.09, 23 P0.10, 24 GND, 25 P0.11, 26 P0.12, 27 P0.13, 28 P0.14, 29 P0.15, 30 P0.16, 31 P0.17, 32 P0.18, 33 P0.19, 34 P0.20, 35 P0.21/RESET, 36 SWDCLK, 37 SWDIO, 38 P0.22, 39 GND, 40 P0.24, 41 P0.23
text: (DO NOT USE); (nRF52832)

## MIC834
designator U?
Comparator w/ 1.24V internal reference, Open-Drain output; Manufacturer: Micrel; MfgPartNumber: MIC834YM5-TR; DigikeyPartNumber: 1611-MIC834YM5-CT-ND
footprint SOT23-5
pins: 1 INP, 2 GND, 3 NC, 4 OUT, 5 VDD
text: 1V24

## MIC2215_AAA
designator U*, comment MIC2215_AAA ADJ 3x LDO
footprint MLF-16_4x4mm (QFN for MIC2215)
part A pins: 1 OUT1, 2 VIN1, 6 EN1, 9 BYP, 10 GND, 11 GND, 15 ADJ1, 16 OUT1, PAD GND
part B pins: 3 VIN2, 4 OUT2, 5 ADJ2, 7 EN2
part C pins: 8 EN3, 12 VIN3, 13 OUT3, 14 ADJ3
part A text: 1V25

## MIC5225YM5
designator U?, comment MIC5225YM5-TR
LDO; Manufacturer: Microchip Technology; Voltage (#V#): 1V0; MfgPartNumber: MIC5225YM5-TR; DigikeyPartNumber: 576-2998-1-ND
footprint SOT23-5
pins: 1 IN, 2 GND, 3 EN, 4 FB, 5 OUT
text: 16V; 1V24

## MIC49500
designator U?, comment MIC69502WR-TR
IC REG LINEAR POS ADJ 5A S-PAK-7; MfgPartNumber: MIC49500WR-TR; Manufacturer: Microchip Technology; DigikeyPartNumber: 576-1466-1-ND
footprint S-PAK-7 (7-pin + tab SMD)
pins: 1 EN, 2 VBIAS, 3 VIN, 4 GND, 5 VOUT, 6 NC, 7 ADJ, TAB GND
text: 0V7

## MIC69502
designator U?, comment MIC69502WR-TR
IC REG LINEAR POS ADJ 5A S-PAK-7; Manufacturer: Microchip Technology; DigikeyPartNumber: MIC69502WR-CT-ND; MfgPartNumber: MIC69502WR-TR
footprint S-PAK-7 (7-pin + tab SMD)
pins: 1 EN, 2 VIN, 3 VIN, 4 GND, 5 VOUT, 6 VOUT, 7 ADJ, TAB GND
text: 0V5

## MICRO_SD
designator J?
9 (8 + 1) Position Card Connector microSD™ Surface Mount, Right Angle Gold; MfgPartNumber: 5031821852; Manufacturer: Molex; DigikeyPartNumber: WM12834CT-ND
footprint MICRO_SD_5031821852 (Micro SD connector, surface mount)
pins: 1 DAT2, 2 CD/DAT3/SPI_~{CS}, 3 CMD/SPI_MOSI, 4 VDD, 5 CLK/SPI_CLK, 6 VSS, 7 DAT0/SPI_MISO, 8 DAT1, DET, M1, M2, M3, M4, M5, M6
text: (GND); (3V3 for SPI); GND

## MINIFIT_JR_8
designator J?  (value not drawn)
CONN HEADER R/A 8POS 4.2MM; MfgPartNumber: 0039301081; Molex: Manufacturer; DigikeyPartNumber: WM1366-ND
footprint 0039301081 (Molex 4x2pin conn)
pins: 1, 2, 3, 4, 5, 6, 7, 8, M1 hidden, M2 hidden

## MJB45H11T4G
designator Q?  MfgPartNumber: MJB45H11T4G
TRANS PNP 80V 10A D2PAK-3; Manufacturer: ON Semiconductor; DigikeyPartNumber: MJB45H11T4GOSCT-ND
footprint D2PAK (3-pin SMD)
pins: 1 E, 2 B, 3 C